# Altium schematic symbol library FOC.SchLib: 109 symbols
Pins are listed as number, name and electrical type; pins without a type are passive.

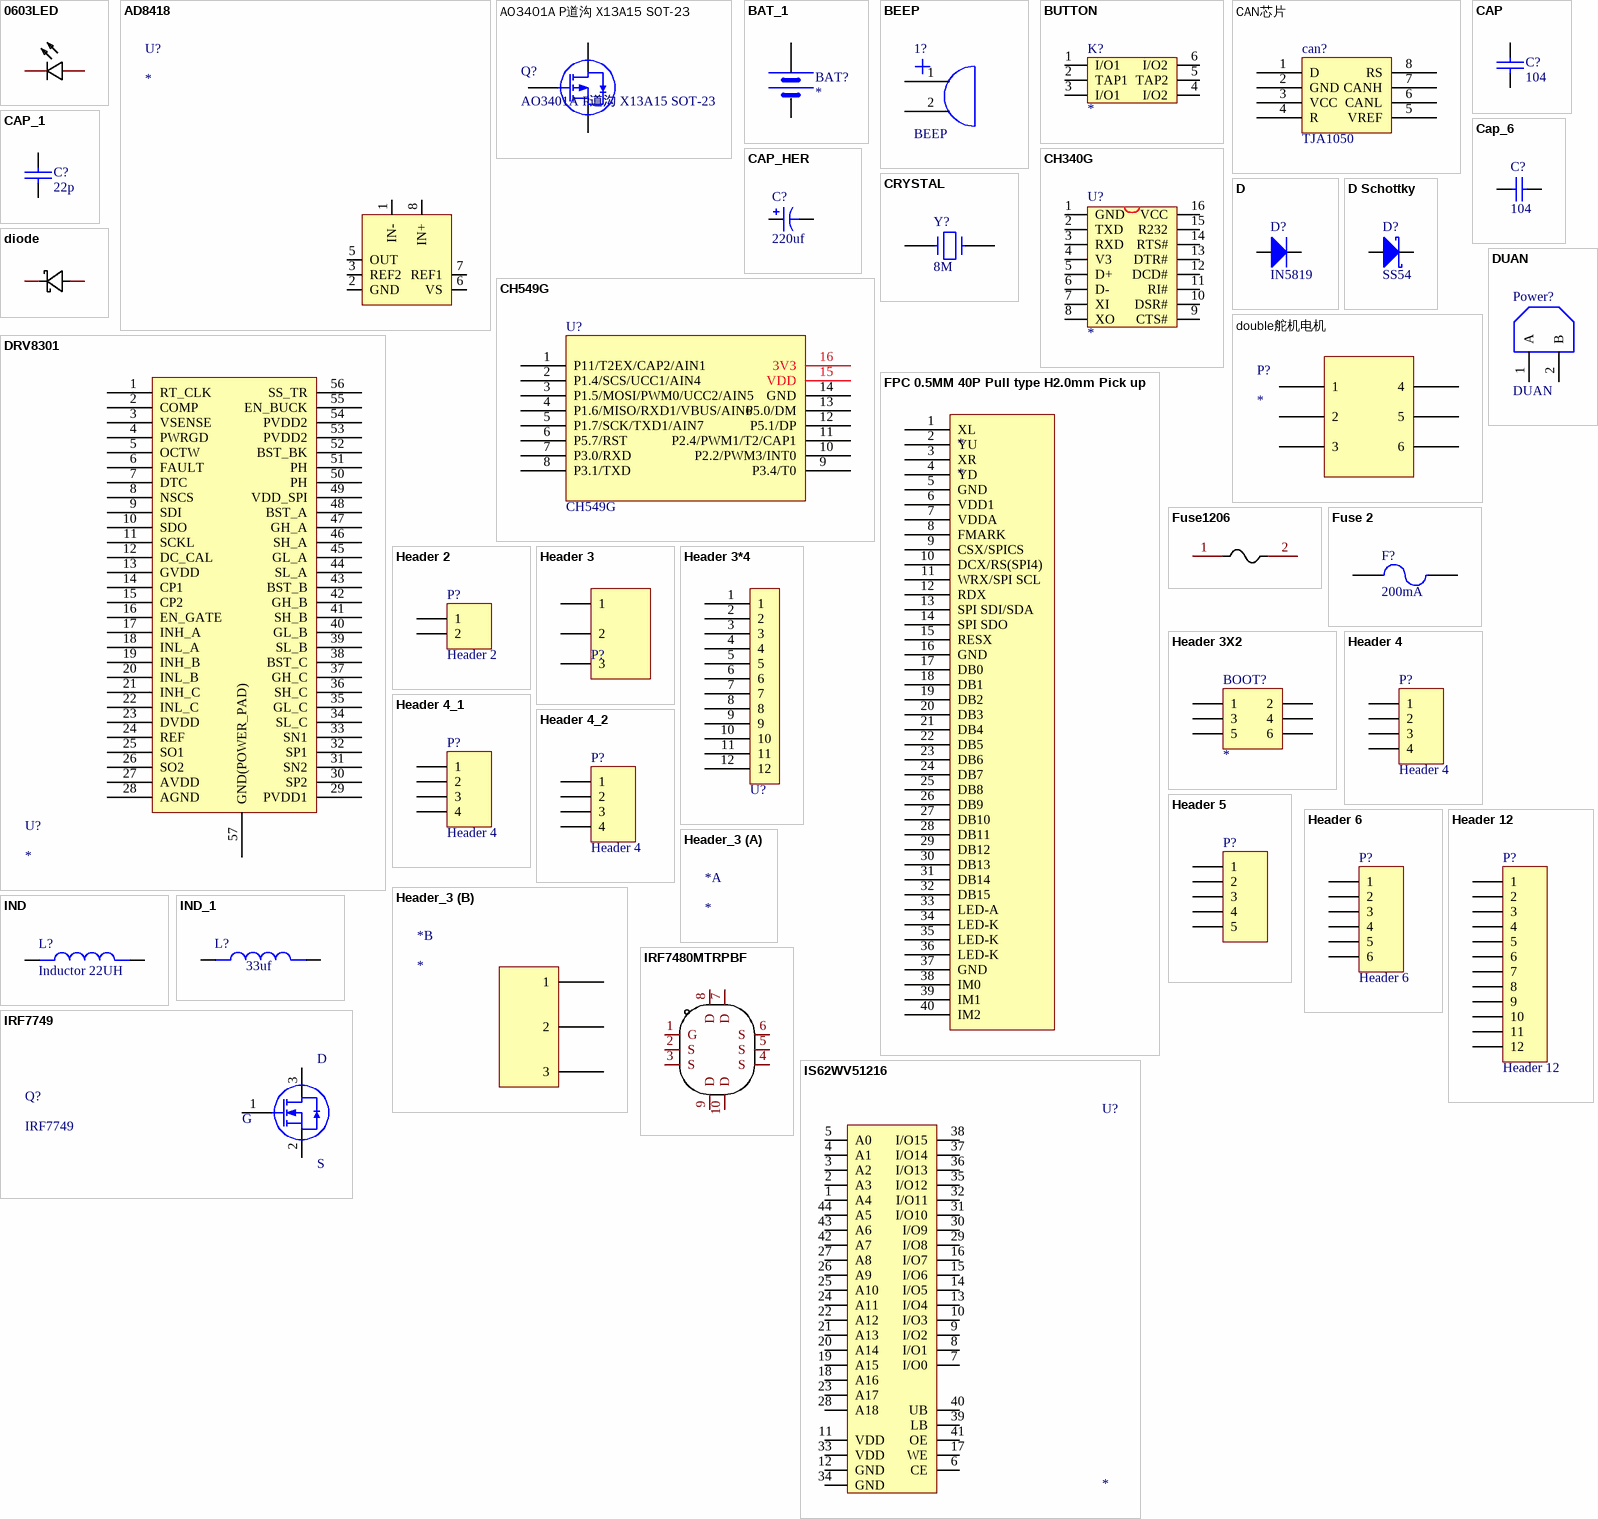
[diagram p0: symbols 0603LED to IS62WV51216]

## 0603LED
designator 0603LED, comment NCD0603R1_C84263  (value not drawn)
Manufacturer: 国星光电; Symbol: FC-DA1608HRK-620D; Add into BOM: yes; Emitted Color: 红色; Forward Voltage (VF): 1.6V~2.6V; Power Dissipation: 65mW; Forward Current: 20mA; Dominant Wavelength: 615nm~630nm; Diode Configuration: 独立二极管; Lens Color: 无色透明; Luminous Intensity: 80mcd~220mcd; Viewing Angle: 130°; Device: NCD0603R1_C84263; Supplier: LCSC; Manufacturer Part: NCD0603R1; Supplier Part: C84263; JLCPCB Part Class: Extended Part; LCSC Part Name: NCD0603R1; Supplier Footprint: 0603; Datasheet: https://atta.szlcsc.com/upload/public/pdf/source/20200820/C84263_DABC6A75E58F576973B407FDBA283D60.pdf; Convert to PCB: yes; Lamp Holder Type: -; Peak Wavelength: -; Color Temperature: -; Mounting Sytle: -; Operating Temperature: -30℃~+85℃
footprint LED0603-RD_RED
footprint 0603LED
pins: 1 K, 2 A

## AD8418
designator U?
电流采样芯片
pins: 1 IN-, 2 GND, 3 REF2, 5 OUT, 6 VS, 7 REF1, 8 IN+

## AO3401A P道沟 X13A15 SOT-23
designator Q?
MOS(场效应管); ComponentLink1Description: 供应商链接; ComponentLink1URL: http://www.szlcsc.com/product/details_15801.html; Package: SOT-23; Supplier: LC; SuppliersPartNumber: C15127
footprint SOT-23-3L (http://www.aosmd.com/res/packaging_information/SOT-23-3L.pdf)
pins: 1 G, 2 S, 3 D

## BAT_1
designator BAT?
footprint BATM
pins: 1 VCC, 2 GND
2 alternate drawings of the same symbol

## BEEP
designator 1?
蜂鸣器
footprint BUZZER_12.0X8.5MM
footprint beep_3.3V
footprint KLJ_8530_无源蜂鸣器
footprint 5020无源蜂鸣器
pins: 1 0, 2 1

## BUTTON
designator K?
footprint BTN8.5*8.5
footprint BTN7*7
pins: 1 I/O1, 2 TAP1, 3 I/O1, 4 I/O2, 5 TAP2, 6 I/O2
2 alternate drawings of the same symbol

## CAN芯片
designator can?, comment TJA1050
footprint TJA1050
pins: 1 D, 2 GND, 3 VCC, 4 R, 5 VREF, 6 CANL, 7 CANH, 8 RS

## CAP
designator C?  value 104  (hidden comment: CAP)
footprint 0603_C (Capacitor)
footprint 0805_C (Capacitor)
footprint 1206_C (Capacitor)
pins: 1, 2

## CAP_1
designator C?, comment value 22p  (hidden comment: CAP)
footprint 0603_C (Capacitor)
footprint 0805_C (Capacitor)
footprint 1206_C (Capacitor)
pins: 1, 2

## Cap_6
designator C?, comment value 104  (hidden comment: Cap)
无极性电容; Published: 8-Jun-2000; LatestRevisionDate: 17-Jul-2002; LatestRevisionNote: Re-released for DXP Platform.; PackageReference: RAD-0.3; Publisher: Altium Limited
footprint C-RAD (瓷片电容)
footprint C-RAD-0805 (贴片电容)
footprint 0603_C (Capacitor)
footprint 0603-2 (贴片无丝印)
footprint 0805-2 (贴片无丝印)
footprint C-RAD-3528 (贴片电容)
pins: 1, 2

## CAP_HER
designator C?  value 220uf  (hidden comment: CAP_HER)
footprint CAP-1206 (贴片元件)
footprint CAP-3528 (钽电容)
footprint CAP-6032 (钽电容)
footprint CAP-8*16 (Connector; Header; 2 Position)
footprint CAP-3216 (钽电容)
footprint CAP-7343 (钽电容)
footprint CAP_ELEC_6.3x5.4 (Capacitor, polarized, aluminum can; 6.3x4.2mm DxH)
footprint CM D(6.3*5.4) (贴片电解电容，直径6.3mm，高5.4mm)
pins: 1, 2

## CH340G
designator U?
USB2UART
footprint SOP16M
pins: 1 GND, 2 TXD, 3 RXD, 4 V3, 5 D+, 6 D-, 7 XI, 8 XO, 9 CTS#, 10 DSR#, 11 RI#, 12 DCD#, 13 DTR#, 14 RTS#, 15 R232, 16 VCC
2 alternate drawings of the same symbol

## CH549G
designator U?
沁恒
footprint SOP16_L (10.3*6.2*1.8mm（长宽高）)
pins: 1 P11/T2EX/CAP2/AIN1, 2 P1.4/SCS/UCC1/AIN4, 3 P1.5/MOSI/PWM0/UCC2/AIN5, 4 P1.6/MISO/RXD1/VBUS/AIN6, 5 P1.7/SCK/TXD1/AIN7, 6 P5.7/RST, 7 P3.0/RXD, 8 P3.1/TXD, 9 P3.4/T0, 10 P2.2/PWM3/INT0, 11 P2.4/PWM1/T2/CAP1, 12 P5.1/DP, 13 P5.0/DM, 14 GND, 15 VDD, 16 3V3

## CRYSTAL
designator Y?, comment 8M
Crystal
footprint XTAL-3
footprint XTAL-32768
footprint XTAL5032
footprint XTAL_SMD5032
pins: 1, 2

## D
designator D?, comment IN5819
二极管
footprint D1206
pins: 1, 2

## D Schottky
designator D?, comment SS54
Schottky Diode; Published: 8-Jun-2000; LatestRevisionDate: 17-Jul-2002; LatestRevisionNote: Re-released for DXP Platform.; PackageReference: SMB; Publisher: Altium Limited; PackageDescription: DO-214-AA/SMB; 2 C-Bend Leads; Body 5.3 x 3.6 mm, inc. leads (LxW); Code_JEDEC: DO-214-AA
simulation model SKYDIODE (Diode)
signal-integrity model D Schottky
footprint DIODE_3*5.3
pins: 1 A, 2 K

## diode
designator D?, comment BZT52C5V6S_C2891792  (value not drawn)
Manufacturer: YONGYUTAI(永裕泰); Add into BOM: yes; Zener Voltage (Nom): 5.6V; Reverse Leakage Current (Ir): 1uA@2V; Zener Voltage (Range): 5.6V~6V; Power Dissipation: 200mW; Zener Impedance (Zzt): 40Ω; Symbol: BZT52C5V6S_C2891792; Device: BZT52C5V6S_C2891792; Supplier: LCSC; Supplier Part: C2891792; Manufacturer Part: BZT52C5V6S; JLCPCB Part Class: Extended Part; LCSC Part Name: 齐纳二极管 5.6V 200mW; Supplier Footprint: SOD-323; Datasheet: https://atta.szlcsc.com/upload/public/pdf/source/20210901/294368778B74EEB9B56A290250021D00.pdf; Convert to PCB: yes; Diode Configuration: -
footprint SOD-323_L1.7-W1.3-LS2.6-FD-1
pins: 1 A, 2 K

## double舵机电机
designator P?
pins: 1, 2, 3, 4, 5, 6

## DRV8301
designator U?
三相整流桥芯片
pins: 1 RT_CLK, 2 COMP, 3 VSENSE, 4 PWRGD, 5 OCTW, 6 FAULT, 7 DTC, 8 NSCS, 9 SDI, 10 SDO, 11 SCKL, 12 DC_CAL, 13 GVDD, 14 CP1, 15 CP2, 16 EN_GATE, 17 INH_A, 18 INL_A, 19 INH_B, 20 INL_B, 21 INH_C, 22 INL_C, 23 DVDD, 24 REF, 25 SO1, 26 SO2, 27 AVDD, 28 AGND, 29 PVDD1, 30 SP2, 31 SN2, 32 SP1, 33 SN1, 34 SL_C, 35 GL_C, 36 SH_C, 37 GH_C, 38 BST_C, 39 SL_B, 40 GL_B, 41 SH_B, 42 GH_B, 43 BST_B, 44 SL_A, 45 GL_A, 46 SH_A, 47 GH_A, 48 BST_A, 49 VDD_SPI, 50 PH, 51 PH, 52 BST_BK, 53 PVDD2, 54 PVDD2, 55 EN_BUCK, 56 SS_TR, 57 GND(POWER_PAD)

## DUAN
designator Power?
footprint DUAN2
footprint DUAN2- E - F
footprint DUAN2-381- E - F
footprint DUAN2-381
footprint HDR2X1_C
footprint XT60PW-FM
footprint XT60PW-M
footprint XT60
pins: 1 A, 2 B

## FPC 0.5MM 40P Pull type H2.0mm Pick up
designator *
pins: 1 XL, 2 YU, 3 XR, 4 YD, 5 GND, 6 VDD1, 7 VDDA, 8 FMARK, 9 CSX/SPICS, 10 DCX/RS(SPI4), 11 WRX/SPI SCL, 12 RDX, 13 SPI SDI/SDA, 14 SPI SDO, 15 RESX, 16 GND, 17 DB0, 18 DB1, 19 DB2, 20 DB3, 21 DB4, 22 DB5, 23 DB6, 24 DB7, 25 DB8, 26 DB9, 27 DB10, 28 DB11, 29 DB12, 30 DB13, 31 DB14, 32 DB15, 33 LED-A, 34 LED-K, 35 LED-K, 36 LED-K, 37 GND, 38 IM0, 39 IM1, 40 IM2, ?1

## Fuse1206
designator F?, comment SMD1206P010TF  (value not drawn)
Manufacturer: RUILON(瑞隆源); Add into BOM: yes; Operating Voltage (Max): 60V; Current Rating (Max): 100A; Hold Current: 100mA; Trip Current: 250mA; Symbol: SMD1206P010TF; Device: SMD1206P010TF; Supplier: LCSC; Manufacturer Part: SMD1206P010TF; Supplier Part: C20981; JLCPCB Part Class: Extended Part; LCSC Part Name: 60V 100mA 1206自恢复; Supplier Footprint: 1206; Datasheet: https://atta.szlcsc.com/upload/public/pdf/source/20181119/C43379_3D256B7D9E6408C4632C18906C4B3500.pdf; Convert to PCB: yes
footprint F1206
pins: 1, 2

## Fuse 2
designator F?, comment value 200mA  (hidden comment: Fuse)
保险丝; Published: 8-Jun-2000; LatestRevisionDate: 17-Jul-2002; LatestRevisionNote: Re-released for DXP Platform.; PackageReference: PIN-W2/E2.8; Publisher: Altium Limited
footprint 1812 (3.5A保险丝)
footprint 1206_F
pins: 1, 2

## Header 2
designator P?
Header, 2-Pin; LatestRevisionDate: 17-Jul-2002; LatestRevisionNote: Re-released for DXP Platform.; Publisher: Altium Limited
footprint HDR1X2 (Connector; Header; 2 Position)
footprint XH_2_V
footprint JST-SM02B-GHS-TB_V (SMD, 2-Leads, Body 5.75x4.05mm, Pitch 1.25mm)
footprint 3.81端子
footprint 3.81端子
footprint XH2.54-WS-2P (长：10mm，宽：8mm，高：6.1mm)
pins: 1, 2

## Header 3
designator P?  (value not drawn)
接插件; LatestRevisionDate: 17-Jul-2002; LatestRevisionNote: Re-released for DXP Platform.; Publisher: Altium Limited
footprint HDR3X1_B1 (Connector; Header; 3 Position)
footprint HDR3X1_A (Connector; Header; 3 Position)
footprint HDR3X1_C (3.81MM接插件)
footprint HDR3X1_D1 (5.08mm端子)
footprint HDR3X1_D2 (5.08mm端子)
footprint HDR3X1_B2 (Connector; Header; 3 Position)
footprint HDR3X1_B4 (Connector; Header; 4 Position)
footprint DIANWEIQI
pins: 1, 2, 3

## Header 3*4
designator U?  (value not drawn)
footprint Header 3*4
footprint 4*3竖
pins: 1, 2, 3, 4, 5, 6, 7, 8, 9, 10, 11, 12

## Header 3X2
designator BOOT?
Header, 3-Pin, Dual row; LatestRevisionDate: *; LatestRevisionNote: *; Publisher: *
footprint HDR2X3
pins: 1, 2, 3, 4, 5, 6
2 alternate drawings of the same symbol

## Header 4
designator P?
Header, 4-Pin; LatestRevisionDate: 17-Jul-2002; LatestRevisionNote: Re-released for DXP Platform.; Publisher: Altium Limited
footprint HDR1X4 (Connector; Header; 4 Position)
footprint XH_4_V
footprint XH2.54-WS-4P (长：15mm，宽：8mm，高：6.1mm)
pins: 1, 2, 3, 4

## Header 4_1
designator P?, comment Header 4
Header, 4-Pin; LatestRevisionDate: 17-Jul-2002; LatestRevisionNote: Re-released for DXP Platform.; Publisher: Altium Limited
footprint HDR1X4 (Connector; Header; 4 Position)
footprint XH_4_V
footprint XH2.54-WI-4P (接插件，4P)
footprint XH2.54-WS-4P (长：15mm，宽：8mm，高：6.1mm)
pins: 1, 2, 3, 4

## Header 4_2
designator P?, comment Header 4
Header, 4-Pin; LatestRevisionDate: 17-Jul-2002; LatestRevisionNote: Re-released for DXP Platform.; Publisher: Altium Limited
footprint HDR1X4 (Connector; Header; 4 Position)
footprint XH_4_V
footprint XH2.54-WS-4P (长：15mm，宽：8mm，高：6.1mm)
footprint 1*4
footprint HDR1X4 (Connector; Header; 4 Position)
footprint XH2.54-WS-4P (长：15mm，宽：8mm，高：6.1mm)
pins: 1, 2, 3, 4

## Header 5
designator P?
Header, 5-Pin; LatestRevisionDate: 17-Jul-2002; LatestRevisionNote: Re-released for DXP Platform.; Publisher: Altium Limited
footprint HDR1X5 (Connector; Header; 5 Position)
footprint XH_5_V
pins: 1, 2, 3, 4, 5

## Header 6
designator P?
Header, 6-Pin; LatestRevisionDate: 17-Jul-2002; LatestRevisionNote: Re-released for DXP Platform.; Publisher: Altium Limited
footprint HDR1X6 (Connector; Header; 6 Position)
footprint XH_6_V
footprint XH2.54-WS-6P (长：20mm，宽：8mm，高：6.1mm)
pins: 1, 2, 3, 4, 5, 6

## Header 12
designator P?
Header, 12-Pin; LatestRevisionDate: 17-Jul-2002; LatestRevisionNote: Re-released for DXP Platform.; Publisher: Altium Limited
footprint HDR1X12 (Connector; Header; 12 Position)
footprint 4*3
footprint HDR1X12 (Connector; Header; 12 Position)
footprint HDR2X6 (Connector; Header; 6x2 Position)
footprint 4*3
footprint 4*3
footprint 4*3
footprint 4*3
footprint 4*3
footprint 4*3竖
footprint 4*3
footprint 3*4
footprint 5*3
footprint 4*3竖
footprint 4*3
footprint 4*3.0 横2
footprint 4*3.0 横2
footprint 4*3.0 横2
pins: 1, 2, 3, 4, 5, 6, 7, 8, 9, 10, 11, 12

## Header_3
designator *
footprint 3.81端子 -3pin
part B pins: ? 1, ? 2, ? 3

## IND
designator L?, comment Inductor 22UH
footprint L_SOP74
footprint L_SOP127
footprint L_G_0810
footprint 0630 33uH
footprint L 0603 (贴片电感0603封装)
footprint 0603_R (Resistor)
pins: 1 Pri-, 2 Pri-

## IND_1
designator L?, comment 33uf
footprint L_SOP74
footprint L_SOP127
footprint L_G_0810
pins: 1 Pri-, 2 Pri-

## IRF7480MTRPBF
designator Q?  (value not drawn)
Manufacturer: Infineon(英飞凌); Add into BOM: yes; Type: N沟道; Drain Source Voltage (Vdss): 40V; Continuous Drain Current (Id): 217A; Power Dissipation (Pd): 96W; Drain Source On Resistance (RDS(on)@Vgs,Id): 1.2mΩ@10V,132A; Gate Threshold Voltage (Vgs(th)@Id): 3.9V@150uA; Name: IRF7480MTRPBF; Symbol: IRF7480MTRPBF; Device: IRF7480MTRPBF; LCSC Part Name: N沟道 40V 217A; Supplier Part: C152356; Manufacturer Part: IRF7480MTRPBF; Supplier Footprint: DIRECTFET; JLCPCB Part Class: Extended Part; Datasheet: https://atta.szlcsc.com/upload/public/pdf/source/20180112/C152356_15157256875111261501.pdf; Supplier: LCSC; Convert to PCB: yes
footprint TRS-SMD_IRF7480MTRPBF
3D model TRS-SMD_IRF7480MTRPBF
pins: 1 G, 2 S, 3 S, 4 S, 5 S, 6 S, 7 D, 8 D, 9 D, 10 D

## IRF7749
designator Q?
MOS(场效应管)
footprint DIRECTFET_L9.1-W7.0_IRF7759L2TRPBF
pins: 1 G, 2 S, 3 D

## IS62WV51216
designator U?
footprint TSOP44
pins: 1 A4, 2 A3, 3 A2, 4 A1, 5 A0, 6 CE, 7 I/O0, 8 I/O1, 9 I/O2, 10 I/O3, 11 VDD, 12 GND, 13 I/O4, 14 I/O5, 15 I/O6, 16 I/O7, 17 WE, 18 A16, 19 A15, 20 A14, 21 A13, 22 A12, 23 A17, 24 A11, 25 A10, 26 A9, 27 A8, 28 A18, 29 I/O8, 30 I/O9, 31 I/O10, 32 I/O11, 33 VDD, 34 GND, 35 I/O12, 36 I/O13, 37 I/O14, 38 I/O15, 39 LB, 40 UB, 41 OE, 42 A7, 43 A6, 44 A5
2 alternate drawings of the same symbol

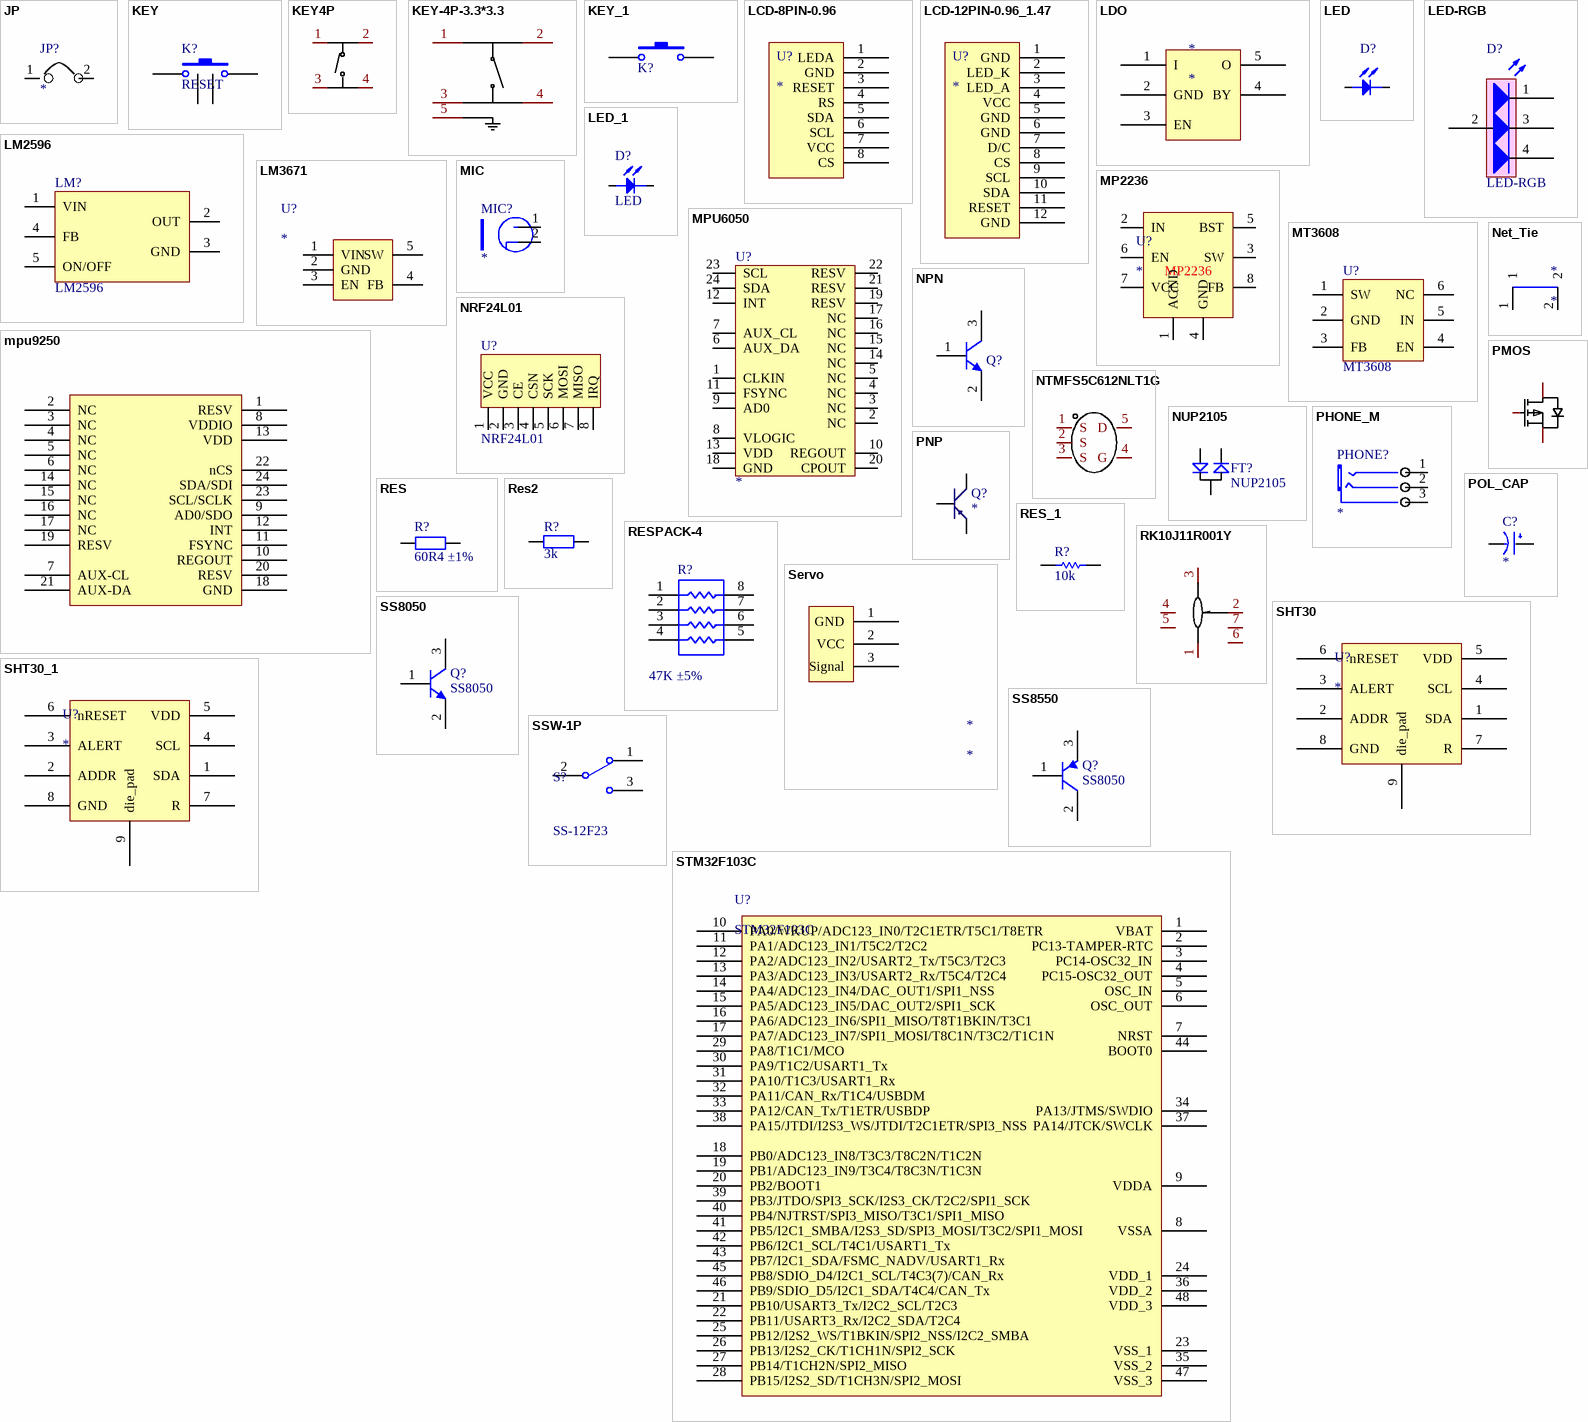
[diagram p1: symbols JP to STM32F103C]

## JP
designator JP?
footprint Jump1 (SMT Battery jumper pads)
pins: 1, 2

## KEY
designator K?, comment RESET
footprint KEY-SMD
footprint KEY_5_SMD (Panasonic SMD tact switch 4.5x4.5x0.55mm, EVQPQxB55)
footprint KEY_5_SMD_2
footprint KEY_6
footprint KEY_12
footprint key_6_stand
footprint 小乌龟
footprint 侧按键
pins: 1, 2, 3 gnd, 4 1

## KEY4P
designator SW?, comment TS-1187A-B-A-B  (value not drawn)
Manufacturer: XKB Connectivity(中国星坤); Add into BOM: yes; Contact Current: 50mA; Voltage Rating (DC): 12V; Circuit: 单刀单掷; Actuator Style: 圆形按钮; Actuator/Cap Color: 金色; With Lamp: 无; Operating Force: 160gf; Mechanical Life: 10万次; Switch Length: 5.1mm; Switch Height: 1.5mm; Strike Gundam: 否; Name: TS-1187A-B-A-B; Symbol: TS-1187A-B-A-B; Device: TS-1187A-B-A-B; LCSC Part Name: 5.1*5.1*1.5mm 立贴 轻触开关 防水金属头; Supplier Part: C318884; Manufacturer Part: TS-1187A-B-A-B; Supplier Footprint: SMD; JLCPCB Part Class: Basic Part; Datasheet: https://atta.szlcsc.com/upload/public/pdf/source/20200227/C318884_1F20165719E1C4CAA3E10C4C359C6E26.pdf; Supplier: LCSC; Convert to PCB: yes; Insulation Resistance: -; Mounting Style: 立贴; Operating Temperature: -30℃~+85℃; Switch Width: 5.1mm
footprint SW-SMD_4P-L5.1-W5.1-P3.70-LS6.5-TL-2
3D model SW-SMD_4P-L5.2-W5.2-H1.5-LS6.4-P3.70
pins: 1 A, 2 B, 3 C, 4 D

## KEY-4P-3.3*3.3
designator SW?, comment TS3315A  (value not drawn)
Manufacturer: SHOU HAN(首韩); Add into BOM: yes; Circuit: 单刀单掷; Actuator Style: 圆形按钮; Switch Length: 3.3mm; Switch Height: 1.5mm; Contact Current: 50mA; Voltage Rating (DC): 12V; Operating Force: 5N; Name: TS3315A; Symbol: TS3315A; Device: TS3315A; LCSC Part Name: 3.3*3.3*1.5mm 立贴 轻触开关; Supplier Part: C412367; Manufacturer Part: TS3315A; Supplier Footprint: SMD,3.3x3.3mm; JLCPCB Part Class: Extended Part; Datasheet: https://atta.szlcsc.com/upload/public/pdf/source/20190816/C412367_ADDBB226FF931702D65874676D89E2B9.pdf; Supplier: LCSC; Convert to PCB: yes; Switch Width: 3.3mm; Strike Gundam: -; Voltage Rating (AC): -; Power Rating: -; Mounting Style: 立贴; Insulation Resistance: -; Actuator/Cap Color: -; With Lamp: -; IP Rating: -; Pin Style: -; Mechanical Life: -; Operating Temperature: -
footprint SW-SMD_4P-L3.4-W3.4-P2.00-LS4.0_TS3315A160GF
pins: 1 A, 2 B, 3 C, 4 D, 5 GND

## KEY_1
designator K?, comment KEY  (value not drawn)
footprint KEY-SMD
footprint KEY_5_SMD (Panasonic SMD tact switch 4.5x4.5x0.55mm, EVQPQxB55)
footprint KEY_5_SMD_2
footprint KEY_6
footprint KEY_12
footprint key_6_stand
pins: 1, 2

## LCD-8PIN-0.96
designator U?
footprint A-LCD接口FPC-8PIN-SPI - duplicate
pins: 1 LEDA, 2 GND, 3 RESET, 4 RS, 5 SDA, 6 SCL, 7 VCC, 8 CS

## LCD-12PIN-0.96_1.47
designator U?
footprint 12PIN-LCD
pins: 1 GND, 2 LED_K, 3 LED_A, 4 VCC, 5 GND, 6 GND, 7 D/C, 8 CS, 9 SCL, 10 SDA, 11 RESET, 12 GND

## LDO
designator *
pins: 1 I, 2 GND, 3 EN, 4 BY, 5 O

## LED
designator D?, comment LED0  (value not drawn)
footprint 0805-LED-BLUE
footprint 0805-LED-GREEN
footprint 0805-LED-RED
footprint LED-3
footprint LED-5
footprint 0805_LED
pins: 1, 2

## LED-RGB
designator D?
三基色LED; Published: 8-Jun-2000; LatestRevisionDate: 08-Jul-2005; LatestRevisionNote: Mech Layer 1 removed.; PackageReference: LED-0; Publisher: Altium Limited
footprint PCBComponent_1
footprint RGB
pins: 1 R, 2 A, 3 G, 4 B

## LED_1
designator D?, comment LED
footprint 0805-LED-BLUE
footprint 0805-LED-GREEN
footprint 0805-LED-RED
pins: A, K

## LM2596
designator LM?
LM2576
footprint TO-220-5
footprint TO-263-5L
pins: 1 VIN, 2 OUT, 3 GND, 4 FB, 5 ON/OFF

## LM3671
designator U?
pins: 1 VIN, 2 GND, 3 EN, 4 FB, 5 SW

## MIC
designator MIC?
footprint MIC-6022
footprint MIC-9767
pins: 1 VCC, 2 GND

## MP2236
designator U?
pins: 1 AGND, 2 IN, 3 SW, 4 GND, 5 BST, 6 EN, 7 VCC, 8 FB

## MPU6050
designator U?
9轴运动处理传感器
footprint QFN24
pins: 1 CLKIN, 2 NC, 3 NC, 4 NC, 5 NC, 6 AUX_DA, 7 AUX_CL, 8 VLOGIC, 9 AD0, 10 REGOUT, 11 FSYNC, 12 INT, 13 VDD, 14 NC, 15 NC, 16 NC, 17 NC, 18 GND, 19 RESV, 20 CPOUT, 21 RESV, 22 RESV, 23 SCL, 24 SDA
2 alternate drawings of the same symbol

## mpu9250
designator *
pins: 1 RESV, 2 NC, 3 NC, 4 NC, 5 NC, 6 NC, 7 AUX-CL, 8 VDDIO, 9 AD0/SDO, 10 REGOUT, 11 FSYNC, 12 INT, 13 VDD, 14 NC, 15 NC, 16 NC, 17 NC, 18 GND, 19 RESV, 20 RESV, 21 AUX-DA, 22 nCS, 23 SCL/SCLK, 24 SDA/SDI

## MT3608
designator U?
footprint SOT23-6
pins: 1 SW, 2 GND, 3 FB, 4 EN, 5 IN, 6 NC

## Net_Tie
designator *
pins: 1, 2

## NPN
designator Q?  (value not drawn)
footprint TO-92
footprint SOT-23Q
pins: 1 B, 2 E, 3 C

## NRF24L01
designator U?
footprint NRF24L01_H
footprint NRF24L01_H
footprint NRF24L01mini
footprint NRF24L01mini
footprint NRF24L01mini
pins: 1 VCC, 2 GND, 3 CE, 4 CSN, 5 SCK, 6 MOSI, 7 MISO, 8 IRQ

## NTMFS5C612NLT1G
designator Q?  (value not drawn)
Manufacturer: onsemi(安森美); Add into BOM: yes; Type: N沟道; Drain Source Voltage (Vdss): 60V; Continuous Drain Current (Id): 235A; Power Dissipation (Pd): 167W; Drain Source On Resistance (RDS(on)@Vgs,Id): 1.5mΩ@10V,50A; Gate Threshold Voltage (Vgs(th)@Id): 2V@250uA; Name: NTMFS5C612NLT1G; Symbol: NTMFS5C612NLT1G; Device: NTMFS5C612NLT1G; LCSC Part Name: 单 N 沟道，功率 MOSFET，60V，196A，1.5mΩ; Supplier Part: C348543; Manufacturer Part: NTMFS5C612NLT1G; Supplier Footprint: DFN-5(5.1x6.1); JLCPCB Part Class: Extended Part; Datasheet: https://atta.szlcsc.com/upload/public/pdf/source/20181211/C348543_383DE2B010B2AF9DF68171C4E20042C8.pdf; Supplier: LCSC; Convert to PCB: yes
footprint DFN-5_L6.1-W5.1-P1.27-BL
3D model DFN-5_L6.1-W5.1-H1.0-P1.27
pins: 1 S, 2 S, 3 S, 4 G, 5 D

## NUP2105
designator FT?
footprint sot-23
footprint SOT-23Q
pins: 1, 2, 3

## PHONE_M
designator PHONE?
footprint PHONE_ST
pins: 1 CHL, 2 CHR, 3 COM
2 alternate drawings of the same symbol

## PMOS
designator Q?, comment AO3401_C727156  (value not drawn)
Manufacturer: TWGMC(台湾迪嘉); Name: AO3401; Add into BOM: yes; Type: P沟道; Drain Source Voltage (Vdss): 30V; Continuous Drain Current (Id): 4.2A; Power Dissipation (Pd): 350mW; Drain Source On Resistance (RDS(on)@Vgs,Id): 65mΩ@10V,4.2A; Gate Threshold Voltage (Vgs(th)@Id): 1.3V@250uA; Symbol: AO3401_C727156; Device: AO3401_C727156; LCSC Part Name: P沟道 耐压:30V 电流:4.2A; Supplier Part: C727156; Manufacturer Part: AO3401; Supplier Footprint: SOT-23; JLCPCB Part Class: Extended Part; Datasheet: https://atta.szlcsc.com/upload/public/pdf/source/20200827/C727156_6E081BBEEFBC6B8FEE164CB196B0AF30.pdf; Supplier: LCSC; Convert to PCB: yes; Total Gate Charge (Qg@Vgs): -; Input Capacitance (Ciss@Vds): -; Reverse Transfer Capacitance (Crss@Vds): -; Operating Temperature: -
footprint SOT-23-3_L2.9-W1.4-P1.90-LS2.6-BR
3D model SOT-23-3_L2.9-W1.4-P1.90-LS2.6-BR
pins: 1 G, 2 S, 3 D

## PNP
designator Q?
8550/BCW68
footprint NPN
footprint SOT-23R
pins: 1 E, 2 B, 3 C
2 alternate drawings of the same symbol

## POL_CAP
designator C?
footprint C1206
footprint CAP2.54
footprint CAP5.08
footprint CAP7.62
pins: 1 VCC, 2 GND
2 alternate drawings of the same symbol

## RES
designator R?, comment 60R4 ±1%
贴片电阻
footprint R 0603 (贴片电阻0603封装)
footprint R 0805 (贴片电阻0805封装)
footprint R 1206 (贴片电阻1206封装)
pins: 1, 2

## Res2
designator R?, comment 3k
Resistor; Value: 10K; Published: 8-Jun-2000; LatestRevisionDate: 17-Jul-2002; LatestRevisionNote: Re-released for DXP Platform.; PackageReference: AXIAL-0.4; Publisher: Altium Limited; PackageDescription: Axial Device, Thru-Hole; 2 Leads; 0.4 in Pin Spacing
footprint 0805
simulation model RESISTOR (Resistor)
signal-integrity model Res
footprint 0603
footprint 0603-l
footprint 0402
footprint 0603_R (Resistor)
pins: 1, 2

## RES_1
designator R?, comment value 10k  (hidden comment: RES)
footprint 0603_R (Resistor)
footprint 0805_R (Resistor)
footprint 1206_R (Resistor)
pins: 1 BOT, 2 TOP

## RESPACK-4
designator R?  (value not drawn)
footprint 排阻
pins: 1, 2, 3, 4, 5, 6, 7, 8
text: 47K ±5%

## RK10J11R001Y
designator R?  (value not drawn)
Manufacturer: ALPSALPINE(阿尔卑斯阿尔派); Name: 10kΩ; Add into BOM: yes; Value: 10kΩ; Tolerance: ±30%; Power(Watts): 30mW; Rated Voltage: 20V; Symbol: RK10J11R001Y; Device: RK10J11R001Y; LCSC Part Name: 10kΩ ±30%; Supplier Part: C470765; Manufacturer Part: RK10J11R001Y; Supplier Footprint: SMD; JLCPCB Part Class: Extended Part; Datasheet: https://atta.szlcsc.com/upload/public/pdf/source/20191216/C470765_EDC9CC3500EF5DC9CD8E3E6727A140CB.pdf; Supplier: LCSC; Convert to PCB: yes; Turns: -
footprint RES-SMD_RK10J11R001Y
3D model RES-SMD_RK10J11R001Y
pins: 1, 2, 3, 4 Dummy, 5 Dummy, 6 EH, 7 EH

## Servo
designator *
pins: 1 GND, 2 VCC, 3 Signal

## SHT30
designator U?
footprint SHT30
pins: 1 SDA, 2 ADDR, 3 ALERT, 4 SCL, 5 VDD, 6 nRESET, 7 R, 8 GND, 9 die_pad

## SHT30_1
designator U?
footprint SHT30
pins: 1 SDA, 2 ADDR, 3 ALERT, 4 SCL, 5 VDD, 6 nRESET, 7 R, 8 GND, 9 die_pad

## SS8050
designator Q?
NPN贴片三极管; Published: 8-Jun-2000; LatestRevisionDate: 15-Jan-2003; LatestRevisionNote: PCB Footprint 'BCY-W3/D4.7' replaced; DatasheetDocument: 1997; PackageDocument: Sep-1998; PackageReference: TO-92A; Publisher: Altium Limited; Code_JEDEC: TO-92A; ComponentLink1Description: Manufacturer Link; ComponentLink1URL: http://www.fairchildsemi.com/; ComponentLink2Description: Datasheet; ComponentLink2URL: http://www.fairchildsemi.com/ds/2N%2F2N3904.pdf
footprint SOT-23 (普通贴片三极管)
footprint SOT-23Q
pins: 1 B, 2 E, 3 C

## SS8550
designator Q?, comment SS8050
NPN贴片三极管; Published: 8-Jun-2000; LatestRevisionDate: 15-Jan-2003; LatestRevisionNote: PCB Footprint 'BCY-W3/D4.7' replaced; DatasheetDocument: 1997; PackageDocument: Sep-1998; PackageReference: TO-92A; Publisher: Altium Limited; Code_JEDEC: TO-92A; ComponentLink1Description: Manufacturer Link; ComponentLink1URL: http://www.fairchildsemi.com/; ComponentLink2Description: Datasheet; ComponentLink2URL: http://www.fairchildsemi.com/ds/2N%2F2N3904.pdf
footprint SOT-23 (普通贴片三极管)
footprint SOT-23Q
pins: 1 B, 2 E, 3 C

## SSW-1P
designator S?, comment SS-12F23
1路波动开关; BOM名称: 波动开关
footprint MSK-12C01-07 (6.7*2.8*1.5mm(长宽高）)
pins: 1, 2, 3

## STM32F103C
designator U?
STM32-48Pin
footprint LQFP48-7*7 (7x7mm，0.5mm（蒜米工坊）)
pins: 1 VBAT, 2 PC13-TAMPER-RTC, 3 PC14-OSC32_IN, 4 PC15-OSC32_OUT, 5 OSC_IN, 6 OSC_OUT, 7 NRST, 8 VSSA, 9 VDDA, 10 PA0/WKUP/ADC123_IN0/T2C1ETR/T5C1/T8ETR, 11 PA1/ADC123_IN1/T5C2/T2C2, 12 PA2/ADC123_IN2/USART2_Tx/T5C3/T2C3, 13 PA3/ADC123_IN3/USART2_Rx/T5C4/T2C4, 14 PA4/ADC123_IN4/DAC_OUT1/SPI1_NSS, 15 PA5/ADC123_IN5/DAC_OUT2/SPI1_SCK, 16 PA6/ADC123_IN6/SPI1_MISO/T8T1BKIN/T3C1, 17 PA7/ADC123_IN7/SPI1_MOSI/T8C1N/T3C2/T1C1N, 18 PB0/ADC123_IN8/T3C3/T8C2N/T1C2N, 19 PB1/ADC123_IN9/T3C4/T8C3N/T1C3N, 20 PB2/BOOT1, 21 PB10/USART3_Tx/I2C2_SCL/T2C3, 22 PB11/USART3_Rx/I2C2_SDA/T2C4, 23 VSS_1, 24 VDD_1, 25 PB12/I2S2_WS/T1BKIN/SPI2_NSS/I2C2_SMBA, 26 PB13/I2S2_CK/T1CH1N/SPI2_SCK, 27 PB14/T1CH2N/SPI2_MISO, 28 PB15/I2S2_SD/T1CH3N/SPI2_MOSI, 29 PA8/T1C1/MCO, 30 PA9/T1C2/USART1_Tx, 31 PA10/T1C3/USART1_Rx, 32 PA11/CAN_Rx/T1C4/USBDM, 33 PA12/CAN_Tx/T1ETR/USBDP, 34 PA13/JTMS/SWDIO, 35 VSS_2, 36 VDD_2, 37 PA14/JTCK/SWCLK, 38 PA15/JTDI/I2S3_WS/JTDI/T2C1ETR/SPI3_NSS, 39 PB3/JTDO/SPI3_SCK/I2S3_CK/T2C2/SPI1_SCK, 40 PB4/NJTRST/SPI3_MISO/T3C1/SPI1_MISO, 41 PB5/I2C1_SMBA/I2S3_SD/SPI3_MOSI/T3C2/SPI1_MOSI, 42 PB6/I2C1_SCL/T4C1/USART1_Tx, 43 PB7/I2C1_SDA/FSMC_NADV/USART1_Rx, 44 BOOT0, 45 PB8/SDIO_D4/I2C1_SCL/T4C3(7)/CAN_Rx, 46 PB9/SDIO_D5/I2C1_SDA/T4C4/CAN_Tx, 47 VSS_3, 48 VDD_3

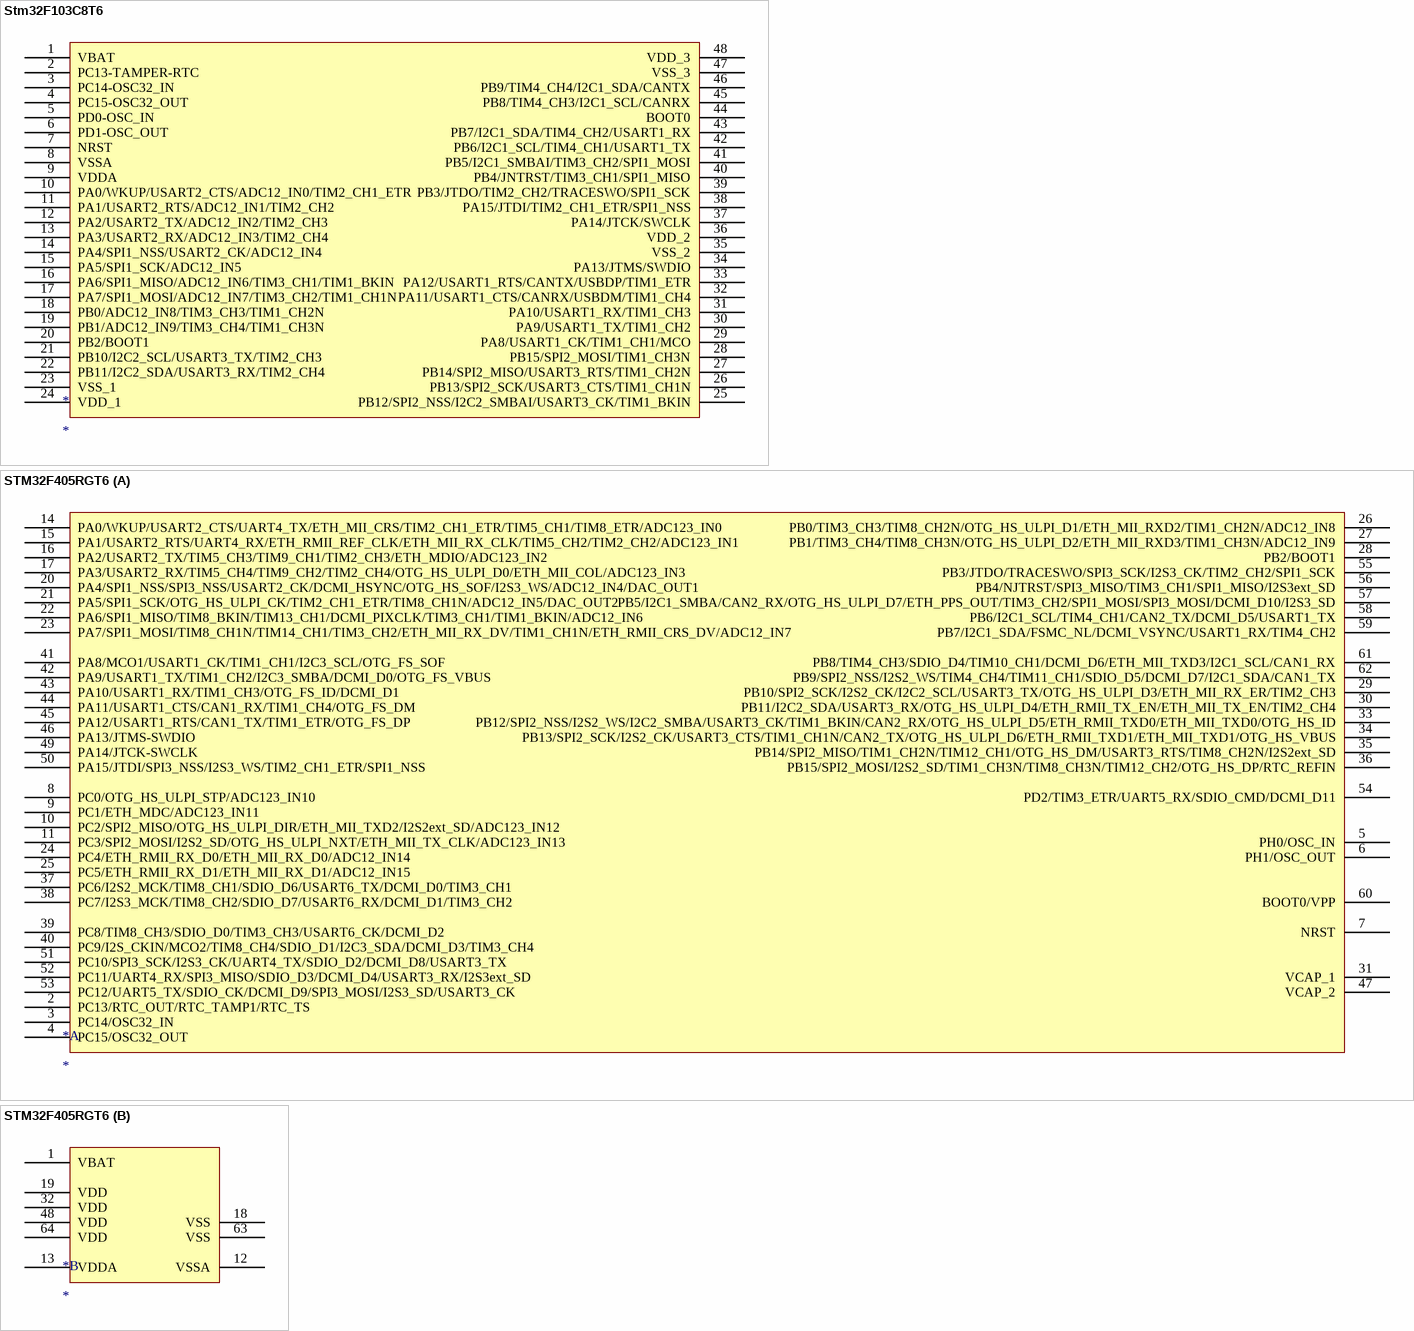
[diagram p2: symbols Stm32F103C8T6 to STM32F405RGT6]

## Stm32F103C8T6
designator *
pins: 1 VBAT, 2 PC13-TAMPER-RTC, 3 PC14-OSC32_IN, 4 PC15-OSC32_OUT, 5 PD0-OSC_IN, 6 PD1-OSC_OUT, 7 NRST, 8 VSSA, 9 VDDA, 10 PA0/WKUP/USART2_CTS/ADC12_IN0/TIM2_CH1_ETR, 11 PA1/USART2_RTS/ADC12_IN1/TIM2_CH2, 12 PA2/USART2_TX/ADC12_IN2/TIM2_CH3, 13 PA3/USART2_RX/ADC12_IN3/TIM2_CH4, 14 PA4/SPI1_NSS/USART2_CK/ADC12_IN4, 15 PA5/SPI1_SCK/ADC12_IN5, 16 PA6/SPI1_MISO/ADC12_IN6/TIM3_CH1/TIM1_BKIN, 17 PA7/SPI1_MOSI/ADC12_IN7/TIM3_CH2/TIM1_CH1N, 18 PB0/ADC12_IN8/TIM3_CH3/TIM1_CH2N, 19 PB1/ADC12_IN9/TIM3_CH4/TIM1_CH3N, 20 PB2/BOOT1, 21 PB10/I2C2_SCL/USART3_TX/TIM2_CH3, 22 PB11/I2C2_SDA/USART3_RX/TIM2_CH4, 23 VSS_1, 24 VDD_1, 25 PB12/SPI2_NSS/I2C2_SMBAI/USART3_CK/TIM1_BKIN, 26 PB13/SPI2_SCK/USART3_CTS/TIM1_CH1N, 27 PB14/SPI2_MISO/USART3_RTS/TIM1_CH2N, 28 PB15/SPI2_MOSI/TIM1_CH3N, 29 PA8/USART1_CK/TIM1_CH1/MCO, 30 PA9/USART1_TX/TIM1_CH2, 31 PA10/USART1_RX/TIM1_CH3, 32 PA11/USART1_CTS/CANRX/USBDM/TIM1_CH4, 33 PA12/USART1_RTS/CANTX/USBDP/TIM1_ETR, 34 PA13/JTMS/SWDIO, 35 VSS_2, 36 VDD_2, 37 PA14/JTCK/SWCLK, 38 PA15/JTDI/TIM2_CH1_ETR/SPI1_NSS, 39 PB3/JTDO/TIM2_CH2/TRACESWO/SPI1_SCK, 40 PB4/JNTRST/TIM3_CH1/SPI1_MISO, 41 PB5/I2C1_SMBAI/TIM3_CH2/SPI1_MOSI, 42 PB6/I2C1_SCL/TIM4_CH1/USART1_TX, 43 PB7/I2C1_SDA/TIM4_CH2/USART1_RX, 44 BOOT0, 45 PB8/TIM4_CH3/I2C1_SCL/CANRX, 46 PB9/TIM4_CH4/I2C1_SDA/CANTX, 47 VSS_3, 48 VDD_3

## STM32F405RGT6
designator *
footprint LQFP-64_L10.0-W10.0-P0.50-LS12.0-BL
part A pins: 2 PC13/RTC_OUT/RTC_TAMP1/RTC_TS, 3 PC14/OSC32_IN, 4 PC15/OSC32_OUT, 5 PH0/OSC_IN, 6 PH1/OSC_OUT, 7  NRST, 8 PC0/OTG_HS_ULPI_STP/ADC123_IN10, 9 PC1/ETH_MDC/ADC123_IN11, 10 PC2/SPI2_MISO/OTG_HS_ULPI_DIR/ETH_MII_TXD2/I2S2ext_SD/ADC123_IN12, 11 PC3/SPI2_MOSI/I2S2_SD/OTG_HS_ULPI_NXT/ETH_MII_TX_CLK/ADC123_IN13, 14 PA0/WKUP/USART2_CTS/UART4_TX/ETH_MII_CRS/TIM2_CH1_ETR/TIM5_CH1/TIM8_ETR/ADC123_IN0, 15 PA1/USART2_RTS/UART4_RX/ETH_RMII_REF_CLK/ETH_MII_RX_CLK/TIM5_CH2/TIM2_CH2/ADC123_IN1, 16 PA2/USART2_TX/TIM5_CH3/TIM9_CH1/TIM2_CH3/ETH_MDIO/ADC123_IN2, 17 PA3/USART2_RX/TIM5_CH4/TIM9_CH2/TIM2_CH4/OTG_HS_ULPI_D0/ETH_MII_COL/ADC123_IN3, 20 PA4/SPI1_NSS/SPI3_NSS/USART2_CK/DCMI_HSYNC/OTG_HS_SOF/I2S3_WS/ADC12_IN4/DAC_OUT1, 21 PA5/SPI1_SCK/OTG_HS_ULPI_CK/TIM2_CH1_ETR/TIM8_CH1N/ADC12_IN5/DAC_OUT2, 22 PA6/SPI1_MISO/TIM8_BKIN/TIM13_CH1/DCMI_PIXCLK/TIM3_CH1/TIM1_BKIN/ADC12_IN6, 23 PA7/SPI1_MOSI/TIM8_CH1N/TIM14_CH1/TIM3_CH2/ETH_MII_RX_DV/TIM1_CH1N/ETH_RMII_CRS_DV/ADC12_IN7, 24 PC4/ETH_RMII_RX_D0/ETH_MII_RX_D0/ADC12_IN14, 25 PC5/ETH_RMII_RX_D1/ETH_MII_RX_D1/ADC12_IN15, 26 PB0/TIM3_CH3/TIM8_CH2N/OTG_HS_ULPI_D1/ETH_MII_RXD2/TIM1_CH2N/ADC12_IN8, 27 PB1/TIM3_CH4/TIM8_CH3N/OTG_HS_ULPI_D2/ETH_MII_RXD3/TIM1_CH3N/ADC12_IN9, 28 PB2/BOOT1, 29 PB10/SPI2_SCK/I2S2_CK/I2C2_SCL/USART3_TX/OTG_HS_ULPI_D3/ETH_MII_RX_ER/TIM2_CH3, 30 PB11/I2C2_SDA/USART3_RX/OTG_HS_ULPI_D4/ETH_RMII_TX_EN/ETH_MII_TX_EN/TIM2_CH4, 31 VCAP_1, 33 PB12/SPI2_NSS/I2S2_WS/I2C2_SMBA/USART3_CK/TIM1_BKIN/CAN2_RX/OTG_HS_ULPI_D5/ETH_RMII_TXD0/ETH_MII_TXD0/OTG_HS_ID, 34 PB13/SPI2_SCK/I2S2_CK/USART3_CTS/TIM1_CH1N/CAN2_TX/OTG_HS_ULPI_D6/ETH_RMII_TXD1/ETH_MII_TXD1/OTG_HS_VBUS, 35 PB14/SPI2_MISO/TIM1_CH2N/TIM12_CH1/OTG_HS_DM/USART3_RTS/TIM8_CH2N/I2S2ext_SD, 36 PB15/SPI2_MOSI/I2S2_SD/TIM1_CH3N/TIM8_CH3N/TIM12_CH2/OTG_HS_DP/RTC_REFIN, 37 PC6/I2S2_MCK/TIM8_CH1/SDIO_D6/USART6_TX/DCMI_D0/TIM3_CH1, 38 PC7/I2S3_MCK/TIM8_CH2/SDIO_D7/USART6_RX/DCMI_D1/TIM3_CH2, 39 PC8/TIM8_CH3/SDIO_D0/TIM3_CH3/USART6_CK/DCMI_D2, 40 PC9/I2S_CKIN/MCO2/TIM8_CH4/SDIO_D1/I2C3_SDA/DCMI_D3/TIM3_CH4, 41 PA8/MCO1/USART1_CK/TIM1_CH1/I2C3_SCL/OTG_FS_SOF, 42 PA9/USART1_TX/TIM1_CH2/I2C3_SMBA/DCMI_D0/OTG_FS_VBUS, 43 PA10/USART1_RX/TIM1_CH3/OTG_FS_ID/DCMI_D1, 44 PA11/USART1_CTS/CAN1_RX/TIM1_CH4/OTG_FS_DM, 45 PA12/USART1_RTS/CAN1_TX/TIM1_ETR/OTG_FS_DP, 46 PA13/JTMS-SWDIO, 47 VCAP_2, 49 PA14/JTCK-SWCLK, 50 PA15/JTDI/SPI3_NSS/I2S3_WS/TIM2_CH1_ETR/SPI1_NSS, 51 PC10/SPI3_SCK/I2S3_CK/UART4_TX/SDIO_D2/DCMI_D8/USART3_TX, 52 PC11/UART4_RX/SPI3_MISO/SDIO_D3/DCMI_D4/USART3_RX/I2S3ext_SD, 53 PC12/UART5_TX/SDIO_CK/DCMI_D9/SPI3_MOSI/I2S3_SD/USART3_CK, 54 PD2/TIM3_ETR/UART5_RX/SDIO_CMD/DCMI_D11, 55 PB3/JTDO/TRACESWO/SPI3_SCK/I2S3_CK/TIM2_CH2/SPI1_SCK, 56 PB4/NJTRST/SPI3_MISO/TIM3_CH1/SPI1_MISO/I2S3ext_SD, 57 PB5/I2C1_SMBA/CAN2_RX/OTG_HS_ULPI_D7/ETH_PPS_OUT/TIM3_CH2/SPI1_MOSI/SPI3_MOSI/DCMI_D10/I2S3_SD, 58 PB6/I2C1_SCL/TIM4_CH1/CAN2_TX/DCMI_D5/USART1_TX, 59 PB7/I2C1_SDA/FSMC_NL/DCMI_VSYNC/USART1_RX/TIM4_CH2, 60 BOOT0/VPP, 61 PB8/TIM4_CH3/SDIO_D4/TIM10_CH1/DCMI_D6/ETH_MII_TXD3/I2C1_SCL/CAN1_RX, 62 PB9/SPI2_NSS/I2S2_WS/TIM4_CH4/TIM11_CH1/SDIO_D5/DCMI_D7/I2C1_SDA/CAN1_TX
part B pins: 1 VBAT, 12 VSSA, 13 VDDA, 18 VSS, 19 VDD, 32 VDD, 48 VDD, 63 VSS, 64 VDD

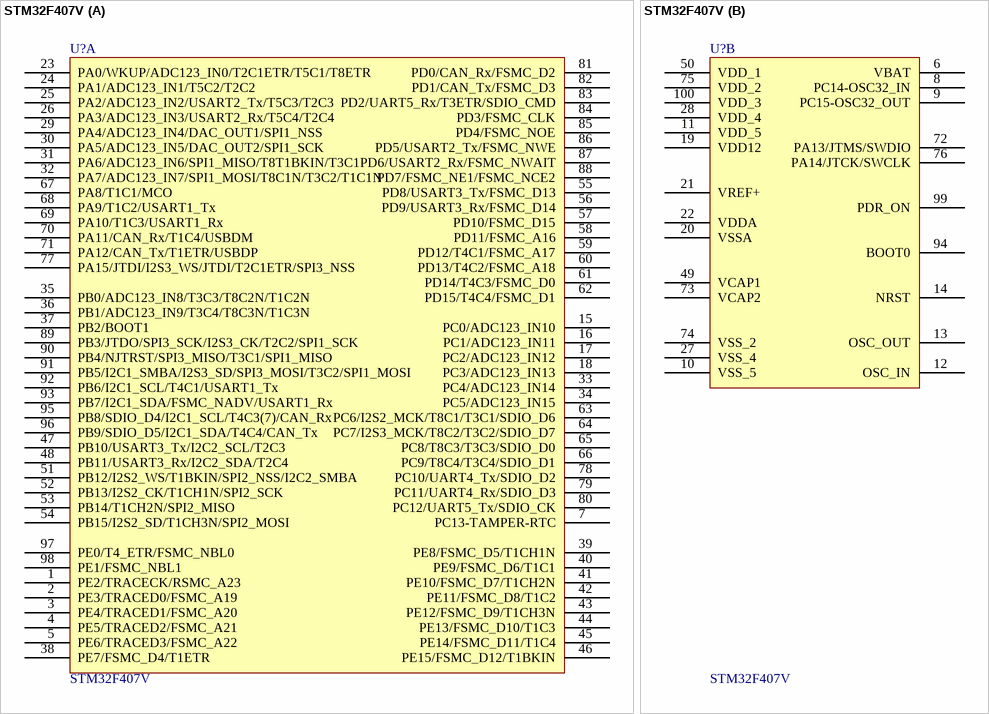
[diagram p3: symbol STM32F407V]

## STM32F407V
designator U?
STM32单片机100引脚
footprint LQFP-100
part A pins: 1 PE2/TRACECK/RSMC_A23, 2 PE3/TRACED0/FSMC_A19, 3 PE4/TRACED1/FSMC_A20, 4 PE5/TRACED2/FSMC_A21, 5 PE6/TRACED3/FSMC_A22, 7 PC13-TAMPER-RTC, 15 PC0/ADC123_IN10, 16 PC1/ADC123_IN11, 17 PC2/ADC123_IN12, 18 PC3/ADC123_IN13, 23 PA0/WKUP/ADC123_IN0/T2C1ETR/T5C1/T8ETR, 24 PA1/ADC123_IN1/T5C2/T2C2, 25 PA2/ADC123_IN2/USART2_Tx/T5C3/T2C3, 26 PA3/ADC123_IN3/USART2_Rx/T5C4/T2C4, 29 PA4/ADC123_IN4/DAC_OUT1/SPI1_NSS, 30 PA5/ADC123_IN5/DAC_OUT2/SPI1_SCK, 31 PA6/ADC123_IN6/SPI1_MISO/T8T1BKIN/T3C1, 32 PA7/ADC123_IN7/SPI1_MOSI/T8C1N/T3C2/T1C1N, 33 PC4/ADC123_IN14, 34 PC5/ADC123_IN15, 35 PB0/ADC123_IN8/T3C3/T8C2N/T1C2N, 36 PB1/ADC123_IN9/T3C4/T8C3N/T1C3N, 37 PB2/BOOT1, 38 PE7/FSMC_D4/T1ETR, 39 PE8/FSMC_D5/T1CH1N, 40 PE9/FSMC_D6/T1C1, 41 PE10/FSMC_D7/T1CH2N, 42 PE11/FSMC_D8/T1C2, 43 PE12/FSMC_D9/T1CH3N, 44 PE13/FSMC_D10/T1C3, 45 PE14/FSMC_D11/T1C4, 46 PE15/FSMC_D12/T1BKIN, 47 PB10/USART3_Tx/I2C2_SCL/T2C3, 48 PB11/USART3_Rx/I2C2_SDA/T2C4, 51 PB12/I2S2_WS/T1BKIN/SPI2_NSS/I2C2_SMBA, 52 PB13/I2S2_CK/T1CH1N/SPI2_SCK, 53 PB14/T1CH2N/SPI2_MISO, 54 PB15/I2S2_SD/T1CH3N/SPI2_MOSI, 55 PD8/USART3_Tx/FSMC_D13, 56 PD9/USART3_Rx/FSMC_D14, 57 PD10/FSMC_D15, 58 PD11/FSMC_A16, 59 PD12/T4C1/FSMC_A17, 60 PD13/T4C2/FSMC_A18, 61 PD14/T4C3/FSMC_D0, 62 PD15/T4C4/FSMC_D1, 63 PC6/I2S2_MCK/T8C1/T3C1/SDIO_D6, 64 PC7/I2S3_MCK/T8C2/T3C2/SDIO_D7, 65 PC8/T8C3/T3C3/SDIO_D0, 66 PC9/T8C4/T3C4/SDIO_D1, 67 PA8/T1C1/MCO, 68 PA9/T1C2/USART1_Tx, 69 PA10/T1C3/USART1_Rx, 70 PA11/CAN_Rx/T1C4/USBDM, 71 PA12/CAN_Tx/T1ETR/USBDP, 77 PA15/JTDI/I2S3_WS/JTDI/T2C1ETR/SPI3_NSS, 78 PC10/UART4_Tx/SDIO_D2, 79 PC11/UART4_Rx/SDIO_D3, 80 PC12/UART5_Tx/SDIO_CK, 81 PD0/CAN_Rx/FSMC_D2, 82 PD1/CAN_Tx/FSMC_D3, 83 PD2/UART5_Rx/T3ETR/SDIO_CMD, 84 PD3/FSMC_CLK, 85 PD4/FSMC_NOE, 86 PD5/USART2_Tx/FSMC_NWE, 87 PD6/USART2_Rx/FSMC_NWAIT, 88 PD7/FSMC_NE1/FSMC_NCE2, 89 PB3/JTDO/SPI3_SCK/I2S3_CK/T2C2/SPI1_SCK, 90 PB4/NJTRST/SPI3_MISO/T3C1/SPI1_MISO, 91 PB5/I2C1_SMBA/I2S3_SD/SPI3_MOSI/T3C2/SPI1_MOSI, 92 PB6/I2C1_SCL/T4C1/USART1_Tx, 93 PB7/I2C1_SDA/FSMC_NADV/USART1_Rx, 95 PB8/SDIO_D4/I2C1_SCL/T4C3(7)/CAN_Rx, 96 PB9/SDIO_D5/I2C1_SDA/T4C4/CAN_Tx, 97 PE0/T4_ETR/FSMC_NBL0, 98 PE1/FSMC_NBL1
part B pins: 6 VBAT, 8 PC14-OSC32_IN, 9 PC15-OSC32_OUT, 10 VSS_5, 11 VDD_5, 12 OSC_IN, 13 OSC_OUT, 14 NRST, 19 VDD12, 20 VSSA, 21 VREF+, 22 VDDA, 27 VSS_4, 28 VDD_4, 49 VCAP1, 50 VDD_1, 72 PA13/JTMS/SWDIO, 73 VCAP2, 74 VSS_2, 75 VDD_2, 76 PA14/JTCK/SWCLK, 94 BOOT0, 99 PDR_ON, 100 VDD_3

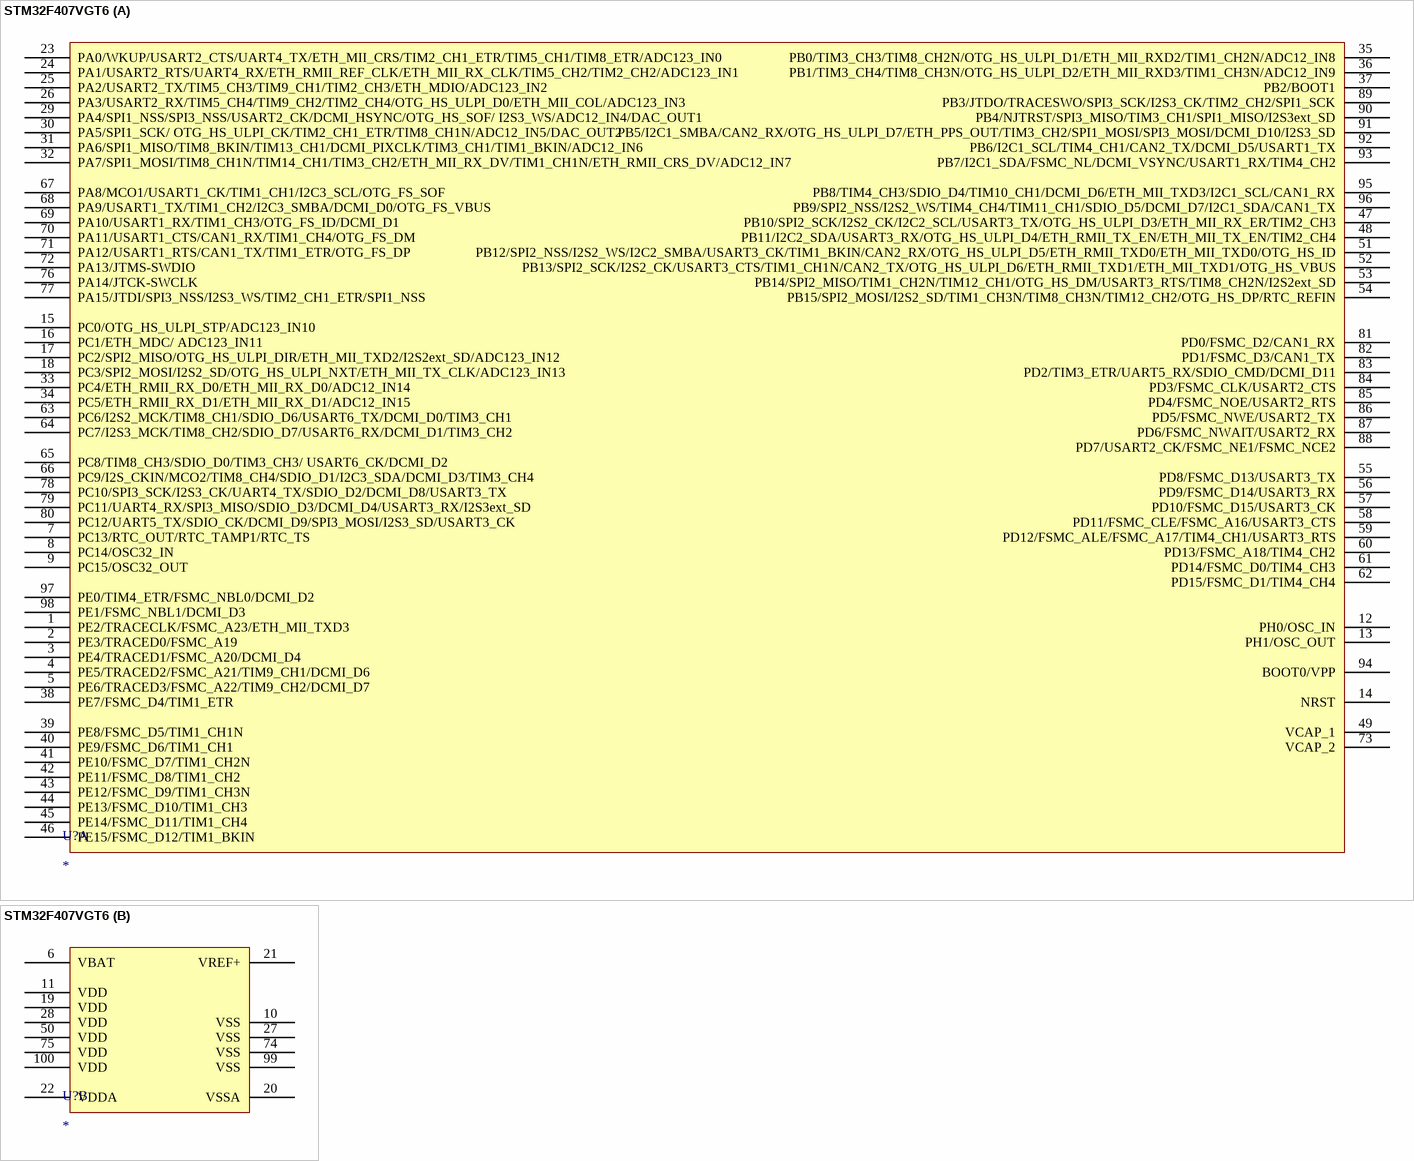
[diagram p4: symbol STM32F407VGT6]

## STM32F407VGT6
designator U?
footprint LQFP-100_L14.0-W14.0-P0.50-LS16.0-BL
part A pins: 1 PE2/TRACECLK/FSMC_A23/ETH_MII_TXD3, 2 PE3/TRACED0/FSMC_A19, 3 PE4/TRACED1/FSMC_A20/DCMI_D4, 4 PE5/TRACED2/FSMC_A21/TIM9_CH1/DCMI_D6, 5 PE6/TRACED3/FSMC_A22/TIM9_CH2/DCMI_D7, 7 PC13/RTC_OUT/RTC_TAMP1/RTC_TS, 8 PC14/OSC32_IN, 9 PC15/OSC32_OUT, 12 PH0/OSC_IN, 13 PH1/OSC_OUT, 14 NRST, 15 PC0/OTG_HS_ULPI_STP/ADC123_IN10, 16 PC1/ETH_MDC/ ADC123_IN11, 17 PC2/SPI2_MISO/OTG_HS_ULPI_DIR/ETH_MII_TXD2/I2S2ext_SD/ADC123_IN12, 18 PC3/SPI2_MOSI/I2S2_SD/OTG_HS_ULPI_NXT/ETH_MII_TX_CLK/ADC123_IN13, 23 PA0/WKUP/USART2_CTS/UART4_TX/ETH_MII_CRS/TIM2_CH1_ETR/TIM5_CH1/TIM8_ETR/ADC123_IN0, 24 PA1/USART2_RTS/UART4_RX/ETH_RMII_REF_CLK/ETH_MII_RX_CLK/TIM5_CH2/TIM2_CH2/ADC123_IN1, 25 PA2/USART2_TX/TIM5_CH3/TIM9_CH1/TIM2_CH3/ETH_MDIO/ADC123_IN2, 26 PA3/USART2_RX/TIM5_CH4/TIM9_CH2/TIM2_CH4/OTG_HS_ULPI_D0/ETH_MII_COL/ADC123_IN3, 29 PA4/SPI1_NSS/SPI3_NSS/USART2_CK/DCMI_HSYNC/OTG_HS_SOF/ I2S3_WS/ADC12_IN4/DAC_OUT1, 30 PA5/SPI1_SCK/ OTG_HS_ULPI_CK/TIM2_CH1_ETR/TIM8_CH1N/ADC12_IN5/DAC_OUT2, 31 PA6/SPI1_MISO/TIM8_BKIN/TIM13_CH1/DCMI_PIXCLK/TIM3_CH1/TIM1_BKIN/ADC12_IN6, 32 PA7/SPI1_MOSI/TIM8_CH1N/TIM14_CH1/TIM3_CH2/ETH_MII_RX_DV/TIM1_CH1N/ETH_RMII_CRS_DV/ADC12_IN7, 33 PC4/ETH_RMII_RX_D0/ETH_MII_RX_D0/ADC12_IN14, 34 PC5/ETH_RMII_RX_D1/ETH_MII_RX_D1/ADC12_IN15, 35 PB0/TIM3_CH3/TIM8_CH2N/OTG_HS_ULPI_D1/ETH_MII_RXD2/TIM1_CH2N/ADC12_IN8, 36 PB1/TIM3_CH4/TIM8_CH3N/OTG_HS_ULPI_D2/ETH_MII_RXD3/TIM1_CH3N/ADC12_IN9, 37 PB2/BOOT1, 38 PE7/FSMC_D4/TIM1_ETR, 39 PE8/FSMC_D5/TIM1_CH1N, 40 PE9/FSMC_D6/TIM1_CH1, 41 PE10/FSMC_D7/TIM1_CH2N, 42 PE11/FSMC_D8/TIM1_CH2, 43 PE12/FSMC_D9/TIM1_CH3N, 44 PE13/FSMC_D10/TIM1_CH3, 45 PE14/FSMC_D11/TIM1_CH4, 46 PE15/FSMC_D12/TIM1_BKIN, 47 PB10/SPI2_SCK/I2S2_CK/I2C2_SCL/USART3_TX/OTG_HS_ULPI_D3/ETH_MII_RX_ER/TIM2_CH3, 48 PB11/I2C2_SDA/USART3_RX/OTG_HS_ULPI_D4/ETH_RMII_TX_EN/ETH_MII_TX_EN/TIM2_CH4, 49 VCAP_1, 51 PB12/SPI2_NSS/I2S2_WS/I2C2_SMBA/USART3_CK/TIM1_BKIN/CAN2_RX/OTG_HS_ULPI_D5/ETH_RMII_TXD0/ETH_MII_TXD0/OTG_HS_ID, 52 PB13/SPI2_SCK/I2S2_CK/USART3_CTS/TIM1_CH1N/CAN2_TX/OTG_HS_ULPI_D6/ETH_RMII_TXD1/ETH_MII_TXD1/OTG_HS_VBUS, 53 PB14/SPI2_MISO/TIM1_CH2N/TIM12_CH1/OTG_HS_DM/USART3_RTS/TIM8_CH2N/I2S2ext_SD, 54 PB15/SPI2_MOSI/I2S2_SD/TIM1_CH3N/TIM8_CH3N/TIM12_CH2/OTG_HS_DP/RTC_REFIN, 55 PD8/FSMC_D13/USART3_TX, 56 PD9/FSMC_D14/USART3_RX, 57 PD10/FSMC_D15/USART3_CK, 58 PD11/FSMC_CLE/FSMC_A16/USART3_CTS, 59 PD12/FSMC_ALE/FSMC_A17/TIM4_CH1/USART3_RTS, 60 PD13/FSMC_A18/TIM4_CH2, 61 PD14/FSMC_D0/TIM4_CH3, 62 PD15/FSMC_D1/TIM4_CH4, 63 PC6/I2S2_MCK/TIM8_CH1/SDIO_D6/USART6_TX/DCMI_D0/TIM3_CH1, 64 PC7/I2S3_MCK/TIM8_CH2/SDIO_D7/USART6_RX/DCMI_D1/TIM3_CH2, 65 PC8/TIM8_CH3/SDIO_D0/TIM3_CH3/ USART6_CK/DCMI_D2, 66 PC9/I2S_CKIN/MCO2/TIM8_CH4/SDIO_D1/I2C3_SDA/DCMI_D3/TIM3_CH4, 67 PA8/MCO1/USART1_CK/TIM1_CH1/I2C3_SCL/OTG_FS_SOF, 68 PA9/USART1_TX/TIM1_CH2/I2C3_SMBA/DCMI_D0/OTG_FS_VBUS, 69 PA10/USART1_RX/TIM1_CH3/OTG_FS_ID/DCMI_D1, 70 PA11/USART1_CTS/CAN1_RX/TIM1_CH4/OTG_FS_DM, 71 PA12/USART1_RTS/CAN1_TX/TIM1_ETR/OTG_FS_DP, 72 PA13/JTMS-SWDIO, 73 VCAP_2, 76 PA14/JTCK-SWCLK, 77 PA15/JTDI/SPI3_NSS/I2S3_WS/TIM2_CH1_ETR/SPI1_NSS, 78 PC10/SPI3_SCK/I2S3_CK/UART4_TX/SDIO_D2/DCMI_D8/USART3_TX, 79 PC11/UART4_RX/SPI3_MISO/SDIO_D3/DCMI_D4/USART3_RX/I2S3ext_SD, 80 PC12/UART5_TX/SDIO_CK/DCMI_D9/SPI3_MOSI/I2S3_SD/USART3_CK, 81 PD0/FSMC_D2/CAN1_RX, 82 PD1/FSMC_D3/CAN1_TX, 83 PD2/TIM3_ETR/UART5_RX/SDIO_CMD/DCMI_D11, 84 PD3/FSMC_CLK/USART2_CTS, 85 PD4/FSMC_NOE/USART2_RTS, 86 PD5/FSMC_NWE/USART2_TX, 87 PD6/FSMC_NWAIT/USART2_RX, 88 PD7/USART2_CK/FSMC_NE1/FSMC_NCE2, 89 PB3/JTDO/TRACESWO/SPI3_SCK/I2S3_CK/TIM2_CH2/SPI1_SCK, 90 PB4/NJTRST/SPI3_MISO/TIM3_CH1/SPI1_MISO/I2S3ext_SD, 91 PB5/I2C1_SMBA/CAN2_RX/OTG_HS_ULPI_D7/ETH_PPS_OUT/TIM3_CH2/SPI1_MOSI/SPI3_MOSI/DCMI_D10/I2S3_SD, 92 PB6/I2C1_SCL/TIM4_CH1/CAN2_TX/DCMI_D5/USART1_TX, 93 PB7/I2C1_SDA/FSMC_NL/DCMI_VSYNC/USART1_RX/TIM4_CH2, 94 BOOT0/VPP, 95 PB8/TIM4_CH3/SDIO_D4/TIM10_CH1/DCMI_D6/ETH_MII_TXD3/I2C1_SCL/CAN1_RX, 96 PB9/SPI2_NSS/I2S2_WS/TIM4_CH4/TIM11_CH1/SDIO_D5/DCMI_D7/I2C1_SDA/CAN1_TX, 97 PE0/TIM4_ETR/FSMC_NBL0/DCMI_D2, 98 PE1/FSMC_NBL1/DCMI_D3
part B pins: 6 VBAT, 10 VSS, 11 VDD, 19 VDD, 20 VSSA, 21 VREF+, 22 VDDA, 27 VSS, 28 VDD, 50 VDD, 74 VSS, 75 VDD, 99 VSS, 100 VDD

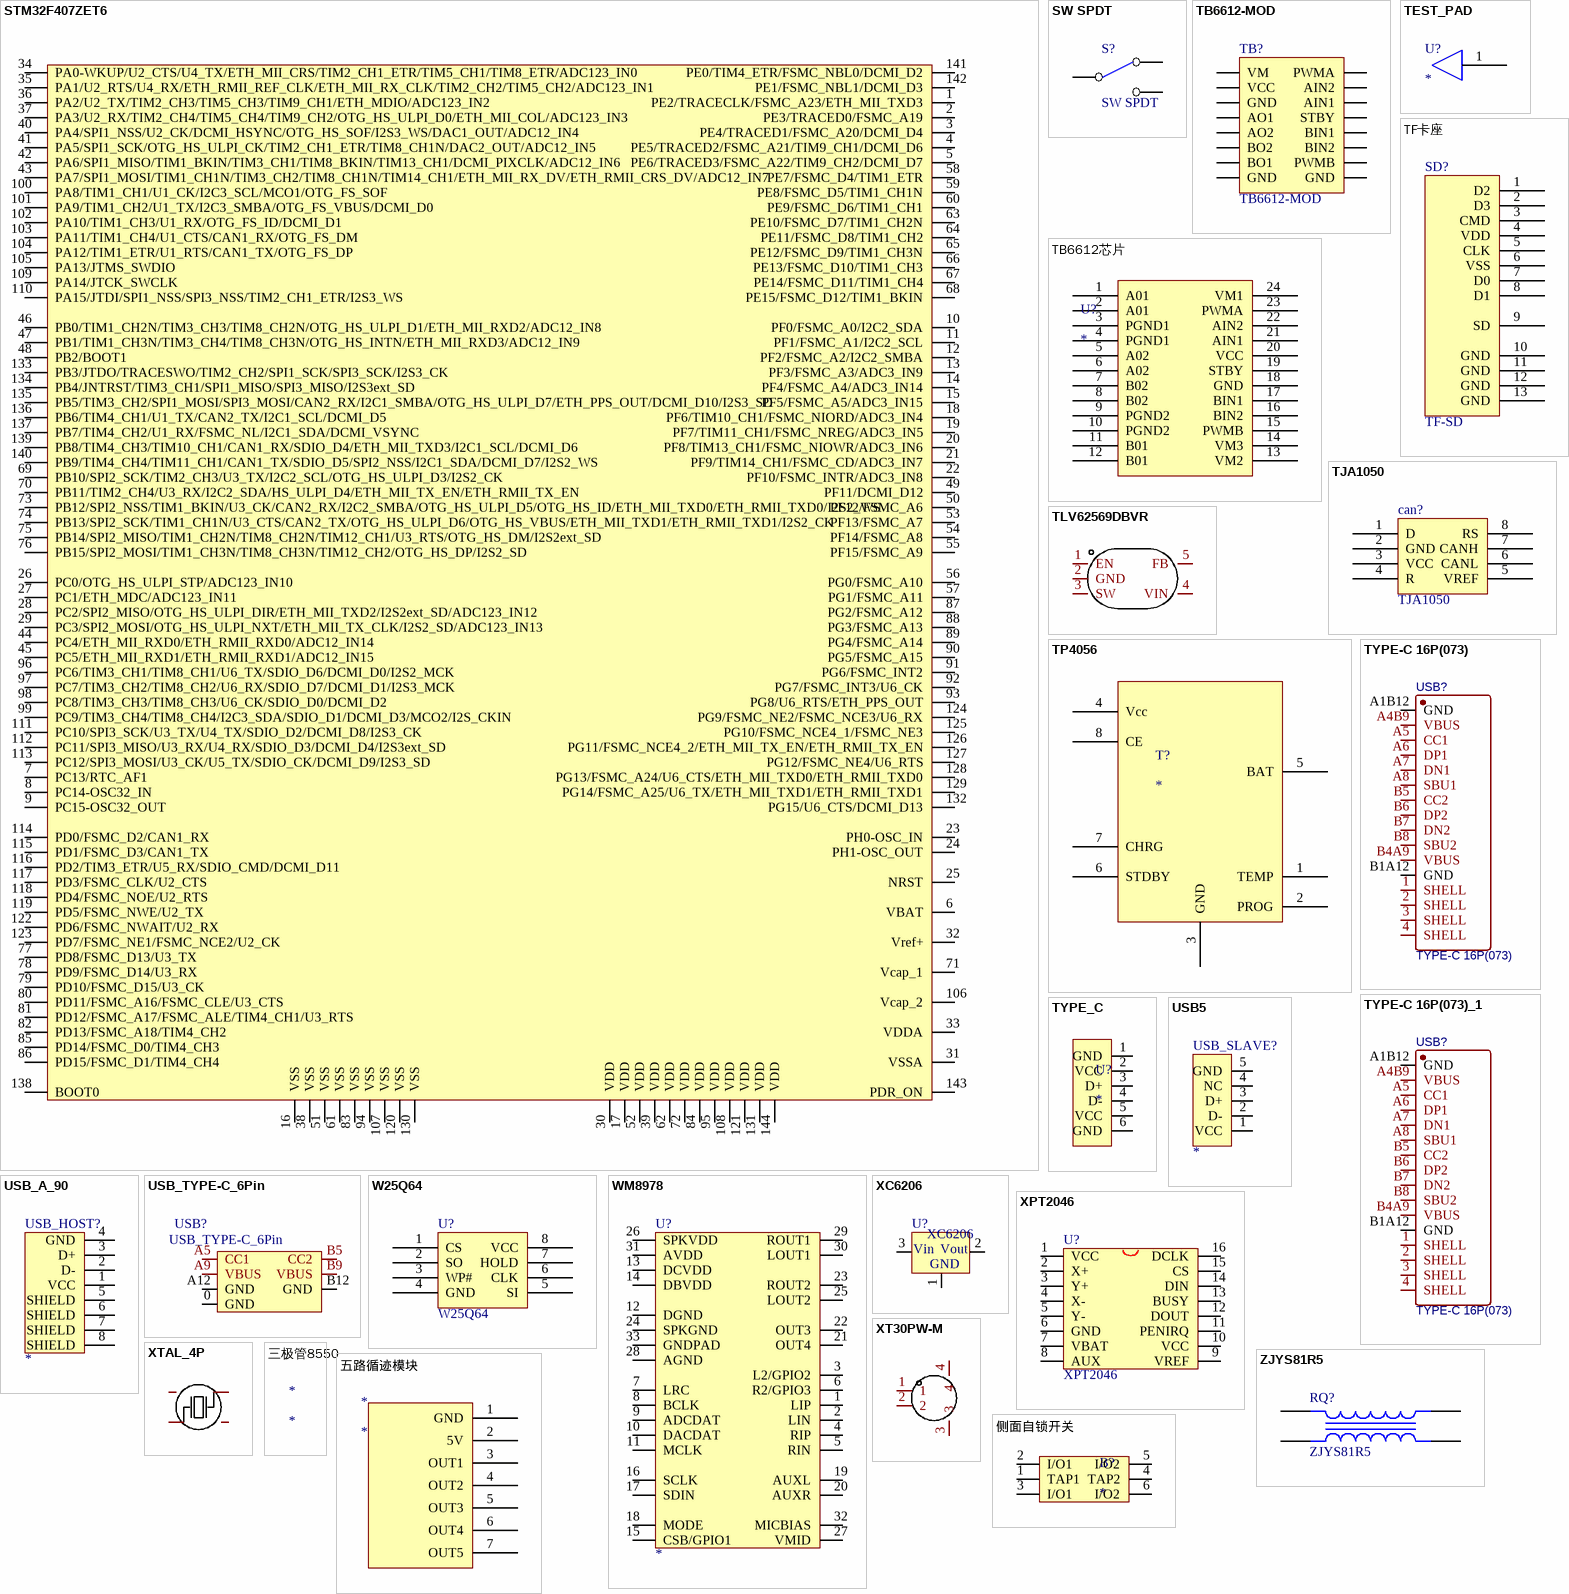
[diagram p5: symbols STM32F407ZET6 to 侧面自锁开关]

## STM32F407ZET6
designator U?
STM32F407ZET6
footprint LQFP144
pins: 1 PE2/TRACECLK/FSMC_A23/ETH_MII_TXD3, 2 PE3/TRACED0/FSMC_A19, 3 PE4/TRACED1/FSMC_A20/DCMI_D4, 4 PE5/TRACED2/FSMC_A21/TIM9_CH1/DCMI_D6, 5 PE6/TRACED3/FSMC_A22/TIM9_CH2/DCMI_D7, 6 VBAT, 7 PC13/RTC_AF1, 8 PC14-OSC32_IN, 9 PC15-OSC32_OUT, 10 PF0/FSMC_A0/I2C2_SDA, 11 PF1/FSMC_A1/I2C2_SCL, 12 PF2/FSMC_A2/I2C2_SMBA, 13 PF3/FSMC_A3/ADC3_IN9, 14 PF4/FSMC_A4/ADC3_IN14, 15 PF5/FSMC_A5/ADC3_IN15, 16 VSS, 17 VDD, 18 PF6/TIM10_CH1/FSMC_NIORD/ADC3_IN4, 19 PF7/TIM11_CH1/FSMC_NREG/ADC3_IN5, 20 PF8/TIM13_CH1/FSMC_NIOWR/ADC3_IN6, 21 PF9/TIM14_CH1/FSMC_CD/ADC3_IN7, 22 PF10/FSMC_INTR/ADC3_IN8, 23 PH0-OSC_IN, 24 PH1-OSC_OUT, 25 NRST, 26 PC0/OTG_HS_ULPI_STP/ADC123_IN10, 27 PC1/ETH_MDC/ADC123_IN11, 28 PC2/SPI2_MISO/OTG_HS_ULPI_DIR/ETH_MII_TXD2/I2S2ext_SD/ADC123_IN12, 29 PC3/SPI2_MOSI/OTG_HS_ULPI_NXT/ETH_MII_TX_CLK/I2S2_SD/ADC123_IN13, 30 VDD, 31 VSSA, 32 Vref+, 33 VDDA, 34 PA0-WKUP/U2_CTS/U4_TX/ETH_MII_CRS/TIM2_CH1_ETR/TIM5_CH1/TIM8_ETR/ADC123_IN0, 35 PA1/U2_RTS/U4_RX/ETH_RMII_REF_CLK/ETH_MII_RX_CLK/TIM2_CH2/TIM5_CH2/ADC123_IN1, 36 PA2/U2_TX/TIM2_CH3/TIM5_CH3/TIM9_CH1/ETH_MDIO/ADC123_IN2, 37 PA3/U2_RX/TIM2_CH4/TIM5_CH4/TIM9_CH2/OTG_HS_ULPI_D0/ETH_MII_COL/ADC123_IN3, 38 VSS, 39 VDD, 40 PA4/SPI1_NSS/U2_CK/DCMI_HSYNC/OTG_HS_SOF/I2S3_WS/DAC1_OUT/ADC12_IN4, 41 PA5/SPI1_SCK/OTG_HS_ULPI_CK/TIM2_CH1_ETR/TIM8_CH1N/DAC2_OUT/ADC12_IN5, 42 PA6/SPI1_MISO/TIM1_BKIN/TIM3_CH1/TIM8_BKIN/TIM13_CH1/DCMI_PIXCLK/ADC12_IN6, 43 PA7/SPI1_MOSI/TIM1_CH1N/TIM3_CH2/TIM8_CH1N/TIM14_CH1/ETH_MII_RX_DV/ETH_RMII_CRS_DV/ADC12_IN7, 44 PC4/ETH_MII_RXD0/ETH_RMII_RXD0/ADC12_IN14, 45 PC5/ETH_MII_RXD1/ETH_RMII_RXD1/ADC12_IN15, 46 PB0/TIM1_CH2N/TIM3_CH3/TIM8_CH2N/OTG_HS_ULPI_D1/ETH_MII_RXD2/ADC12_IN8, 47 PB1/TIM1_CH3N/TIM3_CH4/TIM8_CH3N/OTG_HS_INTN/ETH_MII_RXD3/ADC12_IN9, 48 PB2/BOOT1, 49 PF11/DCMI_D12, 50 PF12/FSMC_A6, 51 VSS, 52 VDD, 53 PF13/FSMC_A7, 54 PF14/FSMC_A8, 55 PF15/FSMC_A9, 56 PG0/FSMC_A10, 57 PG1/FSMC_A11, 58 PE7/FSMC_D4/TIM1_ETR, 59 PE8/FSMC_D5/TIM1_CH1N, 60 PE9/FSMC_D6/TIM1_CH1, 61 VSS, 62 VDD, 63 PE10/FSMC_D7/TIM1_CH2N, 64 PE11/FSMC_D8/TIM1_CH2, 65 PE12/FSMC_D9/TIM1_CH3N, 66 PE13/FSMC_D10/TIM1_CH3, 67 PE14/FSMC_D11/TIM1_CH4, 68 PE15/FSMC_D12/TIM1_BKIN, 69 PB10/SPI2_SCK/TIM2_CH3/U3_TX/I2C2_SCL/OTG_HS_ULPI_D3/I2S2_CK, 70 PB11/TIM2_CH4/U3_RX/I2C2_SDA/HS_ULPI_D4/ETH_MII_TX_EN/ETH_RMII_TX_EN, 71 Vcap_1, 72 VDD, 73 PB12/SPI2_NSS/TIM1_BKIN/U3_CK/CAN2_RX/I2C2_SMBA/OTG_HS_ULPI_D5/OTG_HS_ID/ETH_MII_TXD0/ETH_RMII_TXD0/I2S2_WS, 74 PB13/SPI2_SCK/TIM1_CH1N/U3_CTS/CAN2_TX/OTG_HS_ULPI_D6/OTG_HS_VBUS/ETH_MII_TXD1/ETH_RMII_TXD1/I2S2_CK, 75 PB14/SPI2_MISO/TIM1_CH2N/TIM8_CH2N/TIM12_CH1/U3_RTS/OTG_HS_DM/I2S2ext_SD, 76 PB15/SPI2_MOSI/TIM1_CH3N/TIM8_CH3N/TIM12_CH2/OTG_HS_DP/I2S2_SD, 77 PD8/FSMC_D13/U3_TX, 78 PD9/FSMC_D14/U3_RX, 79 PD10/FSMC_D15/U3_CK, 80 PD11/FSMC_A16/FSMC_CLE/U3_CTS, 81 PD12/FSMC_A17/FSMC_ALE/TIM4_CH1/U3_RTS, 82 PD13/FSMC_A18/TIM4_CH2, 83 VSS, 84 VDD, 85 PD14/FSMC_D0/TIM4_CH3, 86 PD15/FSMC_D1/TIM4_CH4, 87 PG2/FSMC_A12, 88 PG3/FSMC_A13, 89 PG4/FSMC_A14, 90 PG5/FSMC_A15, 91 PG6/FSMC_INT2, 92 PG7/FSMC_INT3/U6_CK, 93 PG8/U6_RTS/ETH_PPS_OUT, 94 VSS, 95 VDD, 96 PC6/TIM3_CH1/TIM8_CH1/U6_TX/SDIO_D6/DCMI_D0/I2S2_MCK, 97 PC7/TIM3_CH2/TIM8_CH2/U6_RX/SDIO_D7/DCMI_D1/I2S3_MCK, 98 PC8/TIM3_CH3/TIM8_CH3/U6_CK/SDIO_D0/DCMI_D2, 99 PC9/TIM3_CH4/TIM8_CH4/I2C3_SDA/SDIO_D1/DCMI_D3/MCO2/I2S_CKIN, 100 PA8/TIM1_CH1/U1_CK/I2C3_SCL/MCO1/OTG_FS_SOF, 101 PA9/TIM1_CH2/U1_TX/I2C3_SMBA/OTG_FS_VBUS/DCMI_D0, 102 PA10/TIM1_CH3/U1_RX/OTG_FS_ID/DCMI_D1, 103 PA11/TIM1_CH4/U1_CTS/CAN1_RX/OTG_FS_DM, 104 PA12/TIM1_ETR/U1_RTS/CAN1_TX/OTG_FS_DP, 105 PA13/JTMS_SWDIO, 106 Vcap_2, 107 VSS, 108 VDD, 109 PA14/JTCK_SWCLK, 110 PA15/JTDI/SPI1_NSS/SPI3_NSS/TIM2_CH1_ETR/I2S3_WS, 111 PC10/SPI3_SCK/U3_TX/U4_TX/SDIO_D2/DCMI_D8/I2S3_CK, 112 PC11/SPI3_MISO/U3_RX/U4_RX/SDIO_D3/DCMI_D4/I2S3ext_SD, 113 PC12/SPI3_MOSI/U3_CK/U5_TX/SDIO_CK/DCMI_D9/I2S3_SD, 114 PD0/FSMC_D2/CAN1_RX, 115 PD1/FSMC_D3/CAN1_TX, 116 PD2/TIM3_ETR/U5_RX/SDIO_CMD/DCMI_D11, 117 PD3/FSMC_CLK/U2_CTS, 118 PD4/FSMC_NOE/U2_RTS, 119 PD5/FSMC_NWE/U2_TX, 120 VSS, 121 VDD, 122 PD6/FSMC_NWAIT/U2_RX, 123 PD7/FSMC_NE1/FSMC_NCE2/U2_CK, 124 PG9/FSMC_NE2/FSMC_NCE3/U6_RX, 125 PG10/FSMC_NCE4_1/FSMC_NE3, 126 PG11/FSMC_NCE4_2/ETH_MII_TX_EN/ETH_RMII_TX_EN, 127 PG12/FSMC_NE4/U6_RTS, 128 PG13/FSMC_A24/U6_CTS/ETH_MII_TXD0/ETH_RMII_TXD0, 129 PG14/FSMC_A25/U6_TX/ETH_MII_TXD1/ETH_RMII_TXD1, 130 VSS, 131 VDD, 132 PG15/U6_CTS/DCMI_D13, 133 PB3/JTDO/TRACESWO/TIM2_CH2/SPI1_SCK/SPI3_SCK/I2S3_CK, 134 PB4/JNTRST/TIM3_CH1/SPI1_MISO/SPI3_MISO/I2S3ext_SD, 135 PB5/TIM3_CH2/SPI1_MOSI/SPI3_MOSI/CAN2_RX/I2C1_SMBA/OTG_HS_ULPI_D7/ETH_PPS_OUT/DCMI_D10/I2S3_SD, 136 PB6/TIM4_CH1/U1_TX/CAN2_TX/I2C1_SCL/DCMI_D5, 137 PB7/TIM4_CH2/U1_RX/FSMC_NL/I2C1_SDA/DCMI_VSYNC, 138 BOOT0, 139 PB8/TIM4_CH3/TIM10_CH1/CAN1_RX/SDIO_D4/ETH_MII_TXD3/I2C1_SCL/DCMI_D6, 140 PB9/TIM4_CH4/TIM11_CH1/CAN1_TX/SDIO_D5/SPI2_NSS/I2C1_SDA/DCMI_D7/I2S2_WS, 141 PE0/TIM4_ETR/FSMC_NBL0/DCMI_D2, 142 PE1/FSMC_NBL1/DCMI_D3, 143 PDR_ON, 144 VDD
2 alternate drawings of the same symbol

## SW SPDT
designator S?
footprint SW1_4.7mm
footprint SWITCH_3F_SPDT - 4.7mm (TE Connectivity SLS121PC04 SPDT slider)
footprint BTN8.8*4.6
pins: 1 NC, 2 COMMON, 3 NO

## TB6612-MOD
designator TB?
footprint TB6612-MOD
pins: 1 VM, 2 VCC, 3 GND, 4 AO1, 5 AO2, 6 BO2, 7 BO1, 8 GND, 9 GND, 10 PWMB, 11 BIN2, 12 BIN1, 13 STBY, 14 AIN1, 15 AIN2, 16 PWMA

## TB6612芯片
designator U?
AIN1/AIN2、BIN1/BIN2、PWMA/PWMB为控制信号输入端；A01/A02、B01/B02为2路电机控制输出端；STBY为正常工作/待机状态控制引脚；VM（3~13.5V）和 VCC（2.7-5.5V）分别为电机驱动电压输入和逻辑电平输入端。
footprint SSOP24_M (8.3*7.8*1.6（长宽高）)
pins: 1 A01, 2 A01, 3 PGND1, 4 PGND1, 5 A02, 6 A02, 7 B02, 8 B02, 9 PGND2, 10 PGND2, 11 B01, 12 B01, 13 VM2, 14 VM3, 15 PWMB, 16 BIN2, 17 BIN1, 18 GND, 19 STBY, 20 VCC, 21 AIN1, 22 AIN2, 23 PWMA, 24 VM1

## TEST_PAD
designator U?
footprint TEST_PAD
pins: 1 2

## TF卡座
designator SD?, comment TF-SD
footprint TF_SD
pins: 1 D2 "1", 2 D3 "1", 3 CMD "1", 4 VDD "1", 5 CLK "1", 6 VSS "1", 7 D0 "1", 8 D1 "1", 9 SD "1", 10 GND "1", 11 GND "1", 12 GND "1", 13 GND "1"

## TJA1050
designator can?
footprint SOP8
footprint sop8
pins: 1 D, 2 GND, 3 VCC, 4 R, 5 VREF, 6 CANL, 7 CANH, 8 RS

## TLV62569DBVR
designator U?  (value not drawn)
Manufacturer: TI(德州仪器); Add into BOM: yes; Function: 降压型; Synchronous Rectification: 是; Output Type: 可调; Topology: 降压式; Input Voltage: 2.5V~5.5V; Output Voltage: 600mV~5.5V; Output Current (Max): 2A; Switching Frequency: 1.5MHz; Name: TLV62569DBVR; Symbol: TLV62569DBVR; Device: TLV62569DBVR; LCSC Part Name: 降压型 输入2.5V~5.5V 输出600mV~5.5V 2A; Supplier Part: C141836; Manufacturer Part: TLV62569DBVR; Supplier Footprint: SOT-23-5; JLCPCB Part Class: Extended Part; Datasheet: https://atta.szlcsc.com/upload/public/pdf/source/20180423/C141836_1FC17A3D2C2E4ECD339DF92B83CED618.pdf; Supplier: LCSC; Convert to PCB: yes; Number of Outputs: -; Operating Temperature: -40℃~+125℃@(TJ)
footprint SOT-23-5_L3.0-W1.7-P0.95-LS2.8-BR
3D model SOT-23-5_L2.9-W1.6-H1.1-LS2.8-P0.95
pins: 1 EN, 2 GND, 3 SW, 4 VIN, 5 FB

## TP4056
designator T?
pins: 1 TEMP, 2 PROG, 3 GND, 4 Vcc, 5 BAT, 6 STDBY, 7 CHRG, 8 CE

## TYPE-C 16P(073)
designator USB?
BOM_Manufacturer: SHOU HAN; Contributor: LCSC; BOM_Supplier: LCSC; BOM_Supplier Part: C668624; BOM_Manufacturer Part: TYPE-C 16P(073); spicePre: U; spiceSymbolName: TYPE-C 16P(073)
footprint USB-C-SMD_TYPE-C16PIN_C668624
footprint USB-C-SMD_TYPE-C16PIN_C668624
footprint USB-C-SMD_TYPE-C16PIN_C668624
footprint USB-C-SMD_TYPE-C16PIN
pins: 1 SHELL, 2 SHELL, 3 SHELL, 4 SHELL, A1B12 GND, A4B9 VBUS, A5 CC1, A6 DP1, A7 DN1, A8 SBU1, B1A12 GND, B4A9 VBUS, B5 CC2, B6 DP2, B7 DN2, B8 SBU2

## TYPE-C 16P(073)_1
designator USB?, comment TYPE-C 16P(073)
BOM_Manufacturer: SHOU HAN; Contributor: LCSC; BOM_Supplier: LCSC; BOM_Supplier Part: C668624; BOM_Manufacturer Part: TYPE-C 16P(073); spicePre: U; spiceSymbolName: TYPE-C 16P(073)
footprint USB-C-SMD_16P - duplicate2
pins: 1 SHELL, 2 SHELL, 3 SHELL, 4 SHELL, A1B12 GND, A4B9 VBUS, A5 CC1, A6 DP1, A7 DN1, A8 SBU1, B1A12 GND, B4A9 VBUS, B5 CC2, B6 DP2, B7 DN2, B8 SBU2

## TYPE_C
designator U?
footprint TYPE_C (usb3.1_6PIN)
pins: 1 GND, 2 VCC, 3 D+, 4 D-, 5 VCC, 6 GND

## USB5
designator USB_SLAVE?
footprint USB/SM0.8-6H5
pins: 1 VCC, 2 D-, 3 D+, 4 NC, 5 GND
2 alternate drawings of the same symbol

## USB_A_90
designator USB_HOST?
USB-A-90
footprint USB-A-90
pins: 1 VCC, 2 D-, 3 D+, 4 GND, 5 SHIELD, 6 SHIELD, 7 SHIELD, 8 SHIELD
2 alternate drawings of the same symbol

## USB_TYPE-C_6Pin
designator USB?
USB_TYPE-C_6Pin母座
footprint USB-C-SMD_6P
pins: 0 GND, A5 CC1, A9 VBUS, A12 GND, B5 CC2, B9 VBUS, B12 GND

## W25Q64
designator U?
footprint SO-8
footprint SOIC-8
pins: 1 CS, 2 SO, 3 WP#, 4 GND, 5 SI, 6 CLK, 7 HOLD, 8 VCC

## WM8978
designator U?
24bit ADC&DAC
footprint qfn32
pins: 1 LIP, 2 LIN, 3 L2/GPIO2, 4 RIP, 5 RIN, 6 R2/GPIO3, 7 LRC, 8 BCLK, 9 ADCDAT, 10 DACDAT, 11 MCLK, 12 DGND, 13 DCVDD, 14 DBVDD, 15 CSB/GPIO1, 16 SCLK, 17 SDIN, 18 MODE, 19 AUXL, 20 AUXR, 21 OUT4, 22 OUT3, 23 ROUT2, 24 SPKGND, 25 LOUT2, 26 SPKVDD, 27 VMID, 28 AGND, 29 ROUT1, 30 LOUT1, 31 AVDD, 32 MICBIAS, 33 GNDPAD
2 alternate drawings of the same symbol

## XC6206
designator U?
footprint SOT-23 Q1
footprint SOT-23Q
pins: 1, 2, 3
text: Vin; Vout; GND

## XPT2046
designator U?
footprint TSSOP-16 (4.96x4.40x1.00 e=0.65（蒜米工坊）)
pins: 1 VCC, 2 X+, 3 Y+, 4 X-, 5 Y-, 6 GND, 7 VBAT, 8 AUX, 9 VREF, 10 VCC, 11 PENIRQ, 12 DOUT, 13 BUSY, 14 DIN, 15 CS, 16 DCLK

## XT30PW-M
designator CN?  (value not drawn)
Manufacturer: AMASS(艾迈斯); Add into BOM: yes; Name: XT30PW-M; Symbol: XT30PW-M; Device: XT30PW-M; LCSC Part Name: XT30PW-M公头; Supplier Part: C431092; Manufacturer Part: XT30PW-M; Supplier Footprint: 插件; JLCPCB Part Class: Extended Part; Datasheet: https://atta.szlcsc.com/upload/public/pdf/source/20220222/6A9F22F7850E25B33E1BE430ADF8560B.pdf; Supplier: LCSC; Convert to PCB: yes
footprint CONN-TH_XT30PW-M
3D model CONN-TH_XT30PW-M
pins: 1, 2, 3, 4

## XTAL_4P
designator X?, comment TAXM8M4RDBCCT2T  (value not drawn)
Manufacturer: YJX(雅晶鑫); Value: 8MHz; Add into BOM: yes; Crystal Type: 贴片无源晶振; Load Capacitance: 10pF; Equivalent Series Resistance (ESR): 250Ω; Frequency Tolerance: ±10ppm; Frequency Stability: ±15ppm; Symbol: TAXM8M4RDBCCT2T; Device: TAXM8M4RDBCCT2T; Supplier: LCSC; Supplier Part: C400090; Manufacturer Part: TAXM8M4RDBCCT2T; JLCPCB Part Class: Extended Part; LCSC Part Name: 8MHz ±10ppm 10pF; Supplier Footprint: SMD3225-4P; Datasheet: https://atta.szlcsc.com/upload/public/pdf/source/20190626/C400090_CF95B89E745AFE4EF2E392EF8AC009D6.pdf; Convert to PCB: yes; Operating Temperature: -40℃~+85℃
footprint OSC-SMD_4P-L3.2-W2.5-BL
pins: 1, 2, 3, 4

## ZJYS81R5
designator RQ?
共模滤波器
footprint SOP4-2.54 (间距2.54mm（蒜米工坊）)
pins: 1, 2, 3, 4

## 三极管8550
designator *

## 五路循迹模块
designator *
pins: 1 GND, 2 5V, 3 OUT1, 4 OUT2, 5 OUT3, 6 OUT4, 7 OUT5

## 侧面自锁开关
designator B?
pins: 1 TAP1, 2 I/O1, 3 I/O1, 4 TAP2, 5 I/O2, 6 I/O2

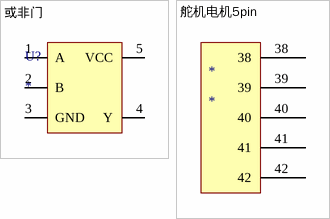
[diagram p6: symbols 或非门 to 舵机电机5pin]

## 或非门
designator U?
footprint SOT323-5 (SC70)
pins: 1 A, 2 B, 3 GND, 4 Y, 5 VCC

## 舵机电机5pin
designator *
pins: 38, 39, 40, 41, 42